# Altium integrated library Atmel Microcontroller AVR XMEGA.IntLib: 76 symbols (part 3 of 5)
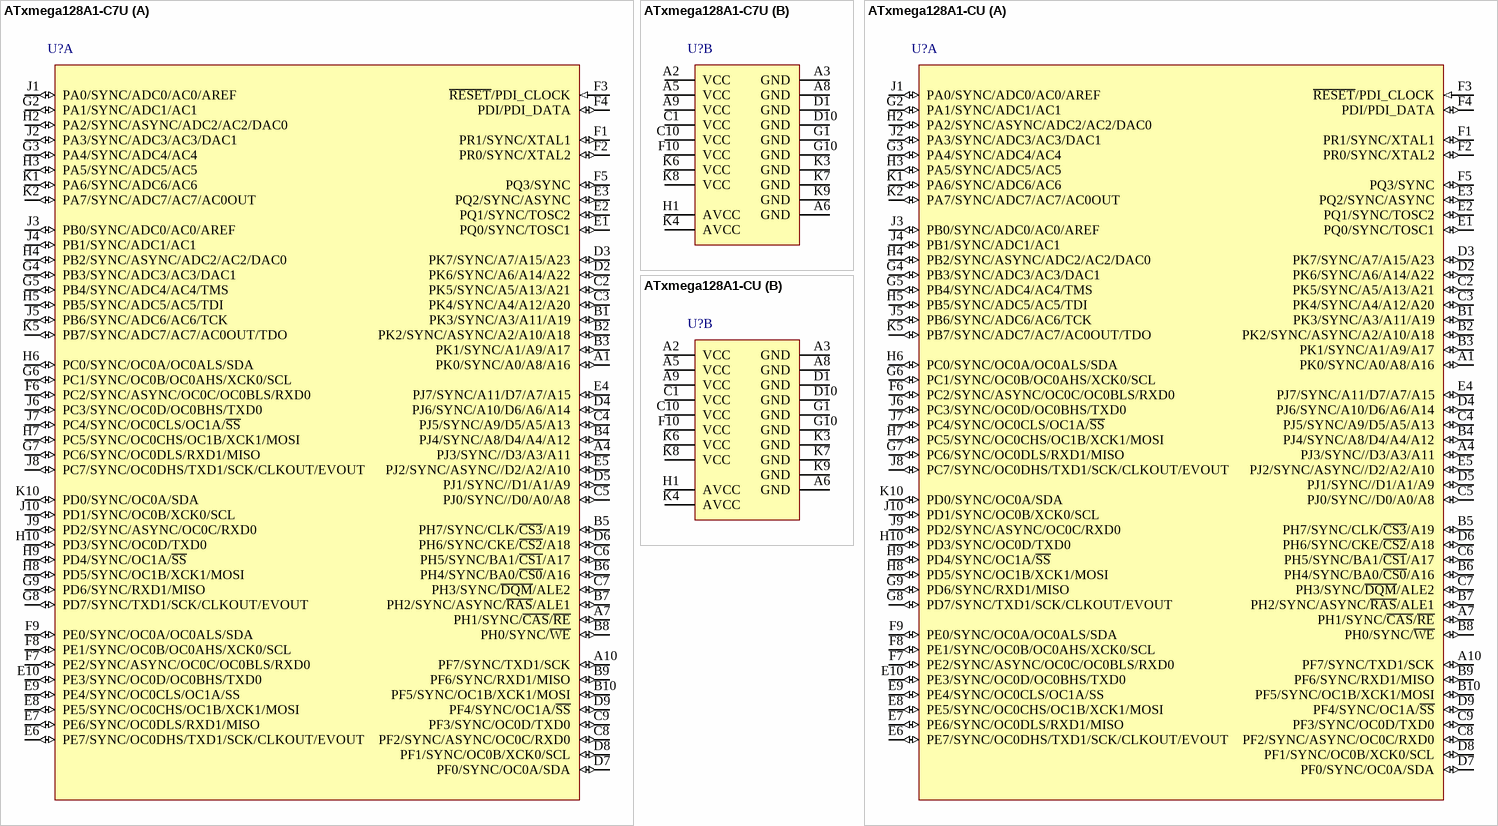
[diagram p24: symbols ATxmega128A1-C7U to ATxmega128A1-CU]

## ATxmega128A1-CU
designator U?
8/16-bit AVR XMEGA A1 Microcontroller, 1.6-3.6V, 32MHz, 128KB + 8KB Flash, 2KB EEPROM, 8KB SRAM, 100-pin CBGA, Industrial Grade (-40°C to 85°C), Pb-Free; DatasheetVersion: revM, Sep-2010; PackageVersion: revA, May-2006; PackageReference: 100C1; PackageDescription: 100-Ball Chip Array BGA Package (CBGA), 9 x 9 x1.2 mm Body, 0.80 mm Pitch; ComponentLink1Description: Manufacturer URL; ComponentLink1URL: http://www.atmel.com/; ComponentLink2Description: ATxmega64A1/128A1/192A1/256A1/384A1 Datasheet; ComponentLink2URL: http://www.atmel.com/dyn/resources/prod_documents/doc8067.pdf
footprint 100C1 (BGA, 100-Leads, Body 9x9mm, Pitch 0.8mm)
part A pins: A1 PK0/SYNC/A0/A8/A16 (io), A4 PJ3/SYNC//D3/A3/A11 (io), A7 PH1/SYNC/~{CAS}/~{RE} (io), A10 PF7/SYNC/TXD1/SCK (io), B1 PK3/SYNC/A3/A11/A19 (io), B2 PK2/SYNC/ASYNC/A2/A10/A18 (io), B3 PK1/SYNC/A1/A9/A17 (io), B4 PJ4/SYNC/A8/D4/A4/A12 (io), B5 PH7/SYNC/CLK/~{CS3}/A19 (io), B6 PH4/SYNC/BA0/~{CS0}/A16 (io), B7 PH2/SYNC/ASYNC/~{RAS}/ALE1 (io), B8 PH0/SYNC/~{WE} (io), B9 PF6/SYNC/RXD1/MISO (io), B10 PF5/SYNC/OC1B/XCK1/MOSI (io), C2 PK5/SYNC/A5/A13/A21 (io), C3 PK4/SYNC/A4/A12/A20 (io), C4 PJ5/SYNC/A9/D5/A5/A13 (io), C5 PJ0/SYNC//D0/A0/A8 (io), C6 PH5/SYNC/BA1/~{CS1}/A17 (io), C7 PH3/SYNC/~{DQM}/ALE2 (io), C8 PF2/SYNC/ASYNC/OC0C/RXD0 (io), C9 PF3/SYNC/OC0D/TXD0 (io), D2 PK6/SYNC/A6/A14/A22 (io), D3 PK7/SYNC/A7/A15/A23 (io), D4 PJ6/SYNC/A10/D6/A6/A14 (io), D5 PJ1/SYNC//D1/A1/A9 (io), D6 PH6/SYNC/CKE/~{CS2}/A18 (io), D7 PF0/SYNC/OC0A/SDA (io), D8 PF1/SYNC/OC0B/XCK0/SCL (io), D9 PF4/SYNC/OC1A/~{SS} (io), E1 PQ0/SYNC/TOSC1 (io), E2 PQ1/SYNC/TOSC2 (io), E3 PQ2/SYNC/ASYNC (io), E4 PJ7/SYNC/A11/D7/A7/A15 (io), E5 PJ2/SYNC/ASYNC//D2/A2/A10 (io), E6 PE7/SYNC/OC0DHS/TXD1/SCK/CLKOUT/EVOUT (io), E7 PE6/SYNC/OC0DLS/RXD1/MISO (io), E8 PE5/SYNC/OC0CHS/OC1B/XCK1/MOSI (io), E9 PE4/SYNC/OC0CLS/OC1A/SS (io), E10 PE3/SYNC/OC0D/OC0BHS/TXD0 (io), F1 PR1/SYNC/XTAL1 (io), F2 PR0/SYNC/XTAL2 (io), F3 ~{RESET}/PDI_CLOCK (in), F4 PDI/PDI_DATA (io), F5 PQ3/SYNC (io), F6 PC2/SYNC/ASYNC/OC0C/OC0BLS/RXD0 (io), F7 PE2/SYNC/ASYNC/OC0C/OC0BLS/RXD0 (io), F8 PE1/SYNC/OC0B/OC0AHS/XCK0/SCL (io), F9 PE0/SYNC/OC0A/OC0ALS/SDA (io), G2 PA1/SYNC/ADC1/AC1 (io), G3 PA4/SYNC/ADC4/AC4 (io), G4 PB3/SYNC/ADC3/AC3/DAC1 (io), G5 PB4/SYNC/ADC4/AC4/TMS (io), G6 PC1/SYNC/OC0B/OC0AHS/XCK0/SCL (io), G7 PC6/SYNC/OC0DLS/RXD1/MISO (io), G8 PD7/SYNC/TXD1/SCK/CLKOUT/EVOUT (io), G9 PD6/SYNC/RXD1/MISO (io), H2 PA2/SYNC/ASYNC/ADC2/AC2/DAC0 (io), H3 PA5/SYNC/ADC5/AC5 (io), H4 PB2/SYNC/ASYNC/ADC2/AC2/DAC0 (io), H5 PB5/SYNC/ADC5/AC5/TDI (io), H6 PC0/SYNC/OC0A/OC0ALS/SDA (io), H7 PC5/SYNC/OC0CHS/OC1B/XCK1/MOSI (io), H8 PD5/SYNC/OC1B/XCK1/MOSI (io), H9 PD4/SYNC/OC1A/~{SS} (io), H10 PD3/SYNC/OC0D/TXD0 (io), J1 PA0/SYNC/ADC0/AC0/AREF (io), J2 PA3/SYNC/ADC3/AC3/DAC1 (io), J3 PB0/SYNC/ADC0/AC0/AREF (io), J4 PB1/SYNC/ADC1/AC1 (io), J5 PB6/SYNC/ADC6/AC6/TCK (io), J6 PC3/SYNC/OC0D/OC0BHS/TXD0 (io), J7 PC4/SYNC/OC0CLS/OC1A/~{SS} (io), J8 PC7/SYNC/OC0DHS/TXD1/SCK/CLKOUT/EVOUT (io), J9 PD2/SYNC/ASYNC/OC0C/RXD0 (io), J10 PD1/SYNC/OC0B/XCK0/SCL (io), K1 PA6/SYNC/ADC6/AC6 (io), K2 PA7/SYNC/ADC7/AC7/AC0OUT (io), K5 PB7/SYNC/ADC7/AC7/AC0OUT/TDO (io), K10 PD0/SYNC/OC0A/SDA (io)
part B pins: A2 VCC (power), A3 GND (power), A5 VCC (power), A6 GND (power), A8 GND (power), A9 VCC (power), C1 VCC (power), C10 VCC (power), D1 GND (power), D10 GND (power), F10 VCC (power), G1 GND (power), G10 GND (power), H1 AVCC (power), K3 GND (power), K4 AVCC (power), K6 VCC (power), K7 GND (power), K8 VCC (power), K9 GND (power)

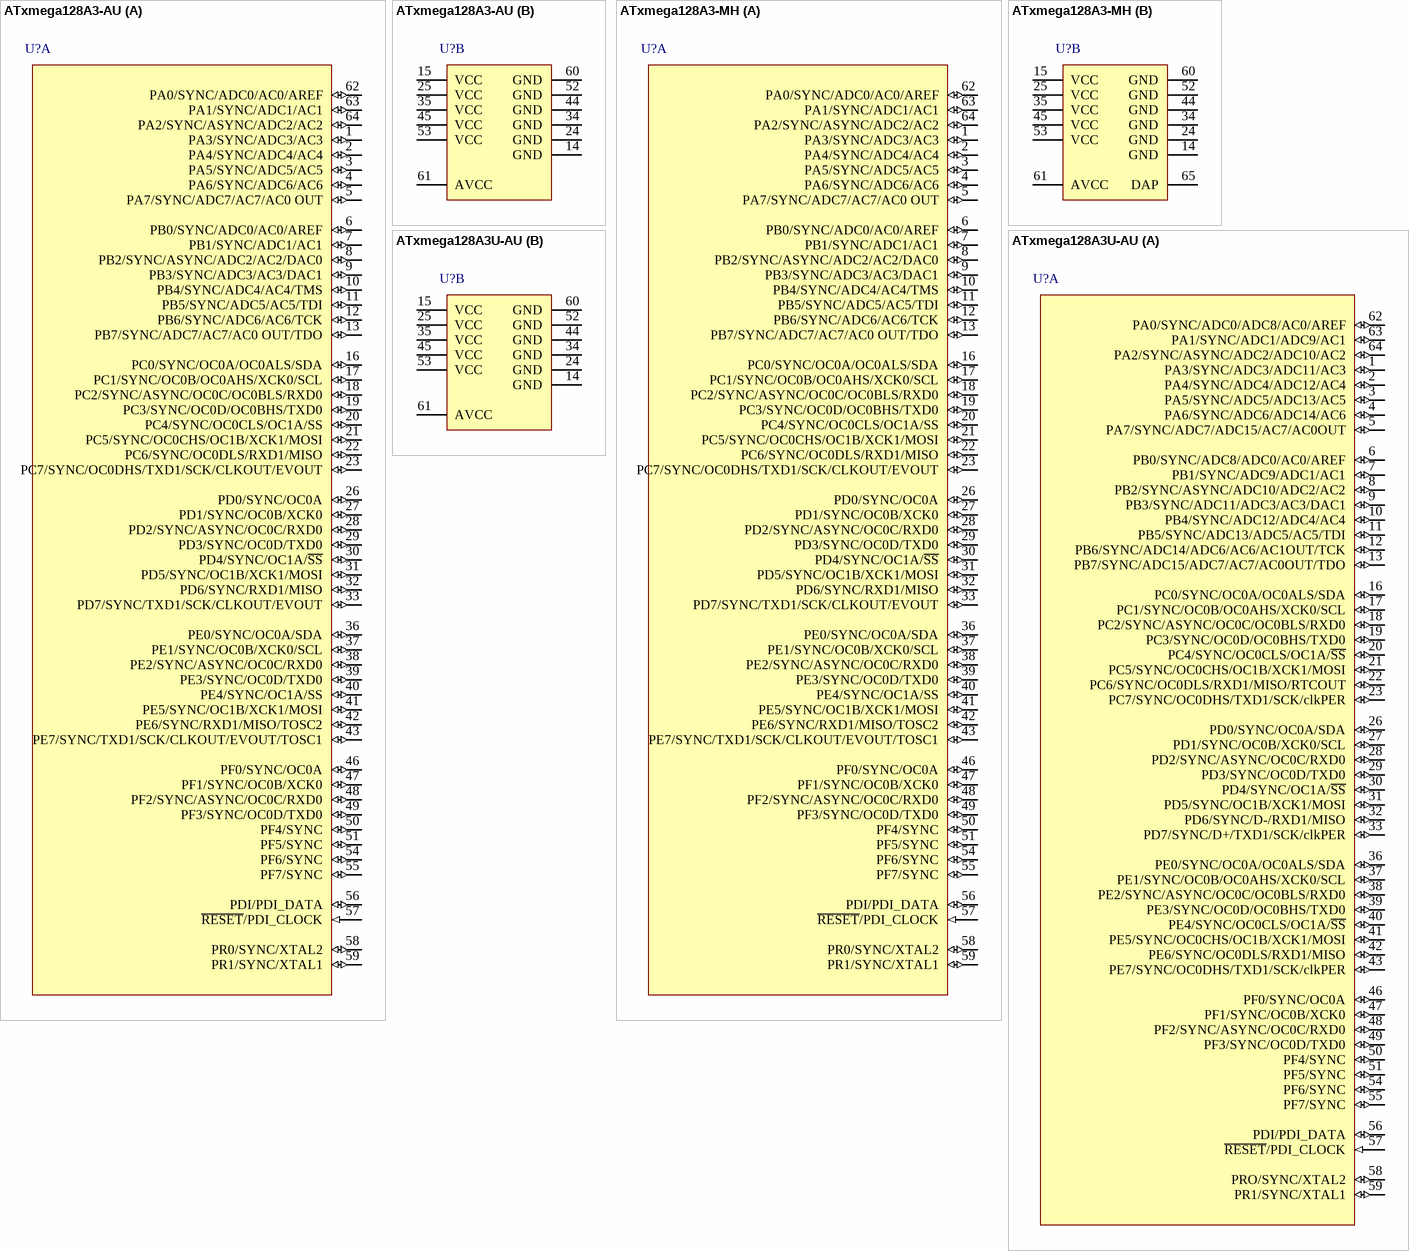
[diagram p10: symbols ATxmega128A3-AU to ATxmega128A3U-AU]

## ATxmega128A3-AU
designator U?
8/16-bit AVR XMEGA A3 Microcontroller, 1.6-3.6V, 32MHz, 128KB + 8KB Flash, 2KB EEPROM, 8KB SRAM, 64-pin TQFP, Industrial Grade (-40°C to 85°C), Pb-Free; DatasheetVersion: revT, Dec-2010; PackageVersion: revC, Oct-2010; PackageReference: 64A; PackageDescription: 64-Pin Plastic Thin Profile Quad Flat Pack, 14 x 14 x 1.0 mm Body, 0.8 mm Pitch (TQFP); Code_JEDEC: MS-026-AEB; ComponentLink1Description: Manufacturer URL; ComponentLink1URL: http://www.atmel.com/; ComponentLink2Description: ATxmega64A3/128A3/192A3/256A3 Datasheet; ComponentLink2URL: http://www.atmel.com/dyn/resources/prod_documents/doc8068.pdf
footprint 64A_N (Thin QFP, 64-Leads, Body 14x14mm, Pitch 0.8mm, IPC Medium Density)
footprint 64A_L (Thin QFP, 64-Leads, Body 14x14mm, Pitch 0.8mm, IPC High Density)
footprint 64A_M (Thin QFP, 64-Leads, Body 14x14mm, Pitch 0.8mm, IPC Low Density)
part A pins: 1 PA3/SYNC/ADC3/AC3 (io), 2 PA4/SYNC/ADC4/AC4 (io), 3 PA5/SYNC/ADC5/AC5 (io), 4 PA6/SYNC/ADC6/AC6 (io), 5 PA7/SYNC/ADC7/AC7/AC0 OUT (io), 6 PB0/SYNC/ADC0/AC0/AREF (io), 7 PB1/SYNC/ADC1/AC1 (io), 8 PB2/SYNC/ASYNC/ADC2/AC2/DAC0 (io), 9 PB3/SYNC/ADC3/AC3/DAC1 (io), 10 PB4/SYNC/ADC4/AC4/TMS (io), 11 PB5/SYNC/ADC5/AC5/TDI (io), 12 PB6/SYNC/ADC6/AC6/TCK (io), 13 PB7/SYNC/ADC7/AC7/AC0 OUT/TDO (io), 16 PC0/SYNC/OC0A/OC0ALS/SDA (io), 17 PC1/SYNC/OC0B/OC0AHS/XCK0/SCL (io), 18 PC2/SYNC/ASYNC/OC0C/OC0BLS/RXD0 (io), 19 PC3/SYNC/OC0D/OC0BHS/TXD0 (io), 20 PC4/SYNC/OC0CLS/OC1A/SS (io), 21 PC5/SYNC/OC0CHS/OC1B/XCK1/MOSI (io), 22 PC6/SYNC/OC0DLS/RXD1/MISO (io), 23 PC7/SYNC/OC0DHS/TXD1/SCK/CLKOUT/EVOUT (io), 26 PD0/SYNC/OC0A (io), 27 PD1/SYNC/OC0B/XCK0 (io), 28 PD2/SYNC/ASYNC/OC0C/RXD0 (io), 29 PD3/SYNC/OC0D/TXD0 (io), 30 PD4/SYNC/OC1A/~{SS} (io), 31 PD5/SYNC/OC1B/XCK1/MOSI (io), 32 PD6/SYNC/RXD1/MISO (io), 33 PD7/SYNC/TXD1/SCK/CLKOUT/EVOUT (io), 36 PE0/SYNC/OC0A/SDA (io), 37 PE1/SYNC/OC0B/XCK0/SCL (io), 38 PE2/SYNC/ASYNC/OC0C/RXD0 (io), 39 PE3/SYNC/OC0D/TXD0 (io), 40 PE4/SYNC/OC1A/SS (io), 41 PE5/SYNC/OC1B/XCK1/MOSI (io), 42 PE6/SYNC/RXD1/MISO/TOSC2 (io), 43 PE7/SYNC/TXD1/SCK/CLKOUT/EVOUT/TOSC1 (io), 46 PF0/SYNC/OC0A (io), 47 PF1/SYNC/OC0B/XCK0 (io), 48 PF2/SYNC/ASYNC/OC0C/RXD0 (io), 49 PF3/SYNC/OC0D/TXD0 (io), 50 PF4/SYNC (io), 51 PF5/SYNC (io), 54 PF6/SYNC (io), 55 PF7/SYNC (io), 56 PDI/PDI_DATA (io), 57 ~{RESET}/PDI_CLOCK (in), 58 PR0/SYNC/XTAL2 (io), 59 PR1/SYNC/XTAL1 (io), 62 PA0/SYNC/ADC0/AC0/AREF (io), 63 PA1/SYNC/ADC1/AC1 (io), 64 PA2/SYNC/ASYNC/ADC2/AC2 (io)
part B pins: 14 GND (power), 15 VCC (power), 24 GND (power), 25 VCC (power), 34 GND (power), 35 VCC (power), 44 GND (power), 45 VCC (power), 52 GND (power), 53 VCC (power), 60 GND (power), 61 AVCC (power)

## ATxmega128A3-MH
designator U?
8/16-bit AVR XMEGA A3 Microcontroller, 1.6-3.6V, 32MHz, 128KB + 8KB Flash, 2KB EEPROM, 8KB SRAM, 64-pin MLF, Industrial Grade (-40°C to 85°C), Pb-Free; DatasheetVersion: revT, Dec-2010; PackageVersion: revE, Oct-2010; PackageReference: 64M2; PackageDescription: 64-Pin Micro Lead Frame Package (MLF), 9 x 9 x 1.0 mm Body, 0.5 mm Pitch, 7.65 mm Exposed Pad; Code_JEDEC: MO-220VMMD; ComponentLink1Description: Manufacturer URL; ComponentLink1URL: http://www.atmel.com/; ComponentLink2Description: ATxmega64A3/128A3/192A3/256A3 Datasheet; ComponentLink2URL: http://www.atmel.com/dyn/resources/prod_documents/doc8068.pdf
footprint 64M2_N (QFN, 64-Leads, Body 9x9mm, Pitch 0.5mm, Thermal Pad 7.8x7.8mm, IPC Medium Density)
footprint 64M2_L (QFN, 64-Leads, Body 9x9mm, Pitch 0.5mm, Thermal Pad 7.8x7.8mm, IPC High Density)
footprint 64M2_M (QFN, 64-Leads, Body 9x9mm, Pitch 0.5mm, Thermal Pad 7.8x7.8mm, IPC Low Density)
part A pins: 1 PA3/SYNC/ADC3/AC3 (io), 2 PA4/SYNC/ADC4/AC4 (io), 3 PA5/SYNC/ADC5/AC5 (io), 4 PA6/SYNC/ADC6/AC6 (io), 5 PA7/SYNC/ADC7/AC7/AC0 OUT (io), 6 PB0/SYNC/ADC0/AC0/AREF (io), 7 PB1/SYNC/ADC1/AC1 (io), 8 PB2/SYNC/ASYNC/ADC2/AC2/DAC0 (io), 9 PB3/SYNC/ADC3/AC3/DAC1 (io), 10 PB4/SYNC/ADC4/AC4/TMS (io), 11 PB5/SYNC/ADC5/AC5/TDI (io), 12 PB6/SYNC/ADC6/AC6/TCK (io), 13 PB7/SYNC/ADC7/AC7/AC0 OUT/TDO (io), 16 PC0/SYNC/OC0A/OC0ALS/SDA (io), 17 PC1/SYNC/OC0B/OC0AHS/XCK0/SCL (io), 18 PC2/SYNC/ASYNC/OC0C/OC0BLS/RXD0 (io), 19 PC3/SYNC/OC0D/OC0BHS/TXD0 (io), 20 PC4/SYNC/OC0CLS/OC1A/SS (io), 21 PC5/SYNC/OC0CHS/OC1B/XCK1/MOSI (io), 22 PC6/SYNC/OC0DLS/RXD1/MISO (io), 23 PC7/SYNC/OC0DHS/TXD1/SCK/CLKOUT/EVOUT (io), 26 PD0/SYNC/OC0A (io), 27 PD1/SYNC/OC0B/XCK0 (io), 28 PD2/SYNC/ASYNC/OC0C/RXD0 (io), 29 PD3/SYNC/OC0D/TXD0 (io), 30 PD4/SYNC/OC1A/~{SS} (io), 31 PD5/SYNC/OC1B/XCK1/MOSI (io), 32 PD6/SYNC/RXD1/MISO (io), 33 PD7/SYNC/TXD1/SCK/CLKOUT/EVOUT (io), 36 PE0/SYNC/OC0A/SDA (io), 37 PE1/SYNC/OC0B/XCK0/SCL (io), 38 PE2/SYNC/ASYNC/OC0C/RXD0 (io), 39 PE3/SYNC/OC0D/TXD0 (io), 40 PE4/SYNC/OC1A/SS (io), 41 PE5/SYNC/OC1B/XCK1/MOSI (io), 42 PE6/SYNC/RXD1/MISO/TOSC2 (io), 43 PE7/SYNC/TXD1/SCK/CLKOUT/EVOUT/TOSC1 (io), 46 PF0/SYNC/OC0A (io), 47 PF1/SYNC/OC0B/XCK0 (io), 48 PF2/SYNC/ASYNC/OC0C/RXD0 (io), 49 PF3/SYNC/OC0D/TXD0 (io), 50 PF4/SYNC (io), 51 PF5/SYNC (io), 54 PF6/SYNC (io), 55 PF7/SYNC (io), 56 PDI/PDI_DATA (io), 57 ~{RESET}/PDI_CLOCK (in), 58 PR0/SYNC/XTAL2 (io), 59 PR1/SYNC/XTAL1 (io), 62 PA0/SYNC/ADC0/AC0/AREF (io), 63 PA1/SYNC/ADC1/AC1 (io), 64 PA2/SYNC/ASYNC/ADC2/AC2 (io)
part B pins: 14 GND (power), 15 VCC (power), 24 GND (power), 25 VCC (power), 34 GND (power), 35 VCC (power), 44 GND (power), 45 VCC (power), 52 GND (power), 53 VCC (power), 60 GND (power), 61 AVCC (power), 65 DAP (power)

## ATxmega128A3U-AU
designator U?
8/16-bit AVR XMEGA A4 Microcontroller, 1.6-3.6V, 32MHz, 128K + 8KB Flash, 2K EEPROM, 8K SRAM, 64-pin TQFP, Industrial Grade (-40°C to 85°C); DatasheetVersion: revB, Dec-2011; PackageVersion: revC, Oct-2010; PackageReference: 64A; PackageDescription: 64-Pin Plastic Thin Profile Quad Flat Pack, 14 x 14 x 1.0 mm Body, 0.8 mm Pitch (TQFP); Code_JEDEC: MS-026-AEB; ComponentLink1Description: Manufacturer URL; ComponentLink1URL: http://www.atmel.com/; ComponentLink2Description: ATxmega64A3U/128A3U/192A3U/256A3U Datasheet; ComponentLink2URL: http://www.atmel.com/dyn/resources/prod_documents/doc8386.pdf
footprint 64A_N (Thin QFP, 64-Leads, Body 14x14mm, Pitch 0.8mm, IPC Medium Density)
footprint 64A_L (Thin QFP, 64-Leads, Body 14x14mm, Pitch 0.8mm, IPC High Density)
footprint 64A_M (Thin QFP, 64-Leads, Body 14x14mm, Pitch 0.8mm, IPC Low Density)
part A pins: 1 PA3/SYNC/ADC3/ADC11/AC3 (io), 2 PA4/SYNC/ADC4/ADC12/AC4 (io), 3 PA5/SYNC/ADC5/ADC13/AC5 (io), 4 PA6/SYNC/ADC6/ADC14/AC6 (io), 5 PA7/SYNC/ADC7/ADC15/AC7/AC0OUT (io), 6 PB0/SYNC/ADC8/ADC0/AC0/AREF (io), 7 PB1/SYNC/ADC9/ADC1/AC1 (io), 8 PB2/SYNC/ASYNC/ADC10/ADC2/AC2 (io), 9 PB3/SYNC/ADC11/ADC3/AC3/DAC1 (io), 10 PB4/SYNC/ADC12/ADC4/AC4 (io), 11 PB5/SYNC/ADC13/ADC5/AC5/TDI (io), 12 PB6/SYNC/ADC14/ADC6/AC6/AC1OUT/TCK (io), 13 PB7/SYNC/ADC15/ADC7/AC7/AC0OUT/TDO (io), 16 PC0/SYNC/OC0A/OC0ALS/SDA (io), 17 PC1/SYNC/OC0B/OC0AHS/XCK0/SCL (io), 18 PC2/SYNC/ASYNC/OC0C/OC0BLS/RXD0 (io), 19 PC3/SYNC/OC0D/OC0BHS/TXD0 (io), 20 PC4/SYNC/OC0CLS/OC1A/~{SS} (io), 21 PC5/SYNC/OC0CHS/OC1B/XCK1/MOSI (io), 22 PC6/SYNC/OC0DLS/RXD1/MISO/RTCOUT (io), 23 PC7/SYNC/OC0DHS/TXD1/SCK/clkPER (io), 26 PD0/SYNC/OC0A/SDA (io), 27 PD1/SYNC/OC0B/XCK0/SCL (io), 28 PD2/SYNC/ASYNC/OC0C/RXD0 (io), 29 PD3/SYNC/OC0D/TXD0 (io), 30 PD4/SYNC/OC1A/~{SS} (io), 31 PD5/SYNC/OC1B/XCK1/MOSI (io), 32 PD6/SYNC/D-/RXD1/MISO (io), 33 PD7/SYNC/D+/TXD1/SCK/clkPER (io), 36 PE0/SYNC/OC0A/OC0ALS/SDA (io), 37 PE1/SYNC/OC0B/OC0AHS/XCK0/SCL (io), 38 PE2/SYNC/ASYNC/OC0C/OC0BLS/RXD0 (io), 39 PE3/SYNC/OC0D/OC0BHS/TXD0 (io), 40 PE4/SYNC/OC0CLS/OC1A/~{SS} (io), 41 PE5/SYNC/OC0CHS/OC1B/XCK1/MOSI (io), 42 PE6/SYNC/OC0DLS/RXD1/MISO (io), 43 PE7/SYNC/OC0DHS/TXD1/SCK/clkPER (io), 46 PF0/SYNC/OC0A (io), 47 PF1/SYNC/OC0B/XCK0 (io), 48 PF2/SYNC/ASYNC/OC0C/RXD0 (io), 49 PF3/SYNC/OC0D/TXD0 (io), 50 PF4/SYNC (io), 51 PF5/SYNC (io), 54 PF6/SYNC (io), 55 PF7/SYNC (io), 56 PDI/PDI_DATA (io), 57 ~{RESET}/PDI_CLOCK (in), 58 PRO/SYNC/XTAL2 (io), 59 PR1/SYNC/XTAL1 (io), 62 PA0/SYNC/ADC0/ADC8/AC0/AREF (io), 63 PA1/SYNC/ADC1/ADC9/AC1 (io), 64 PA2/SYNC/ASYNC/ADC2/ADC10/AC2 (io)
part B pins: 14 GND (power), 15 VCC (power), 24 GND (power), 25 VCC (power), 34 GND (power), 35 VCC (power), 44 GND (power), 45 VCC (power), 52 GND (power), 53 VCC (power), 60 GND (power), 61 AVCC (power)

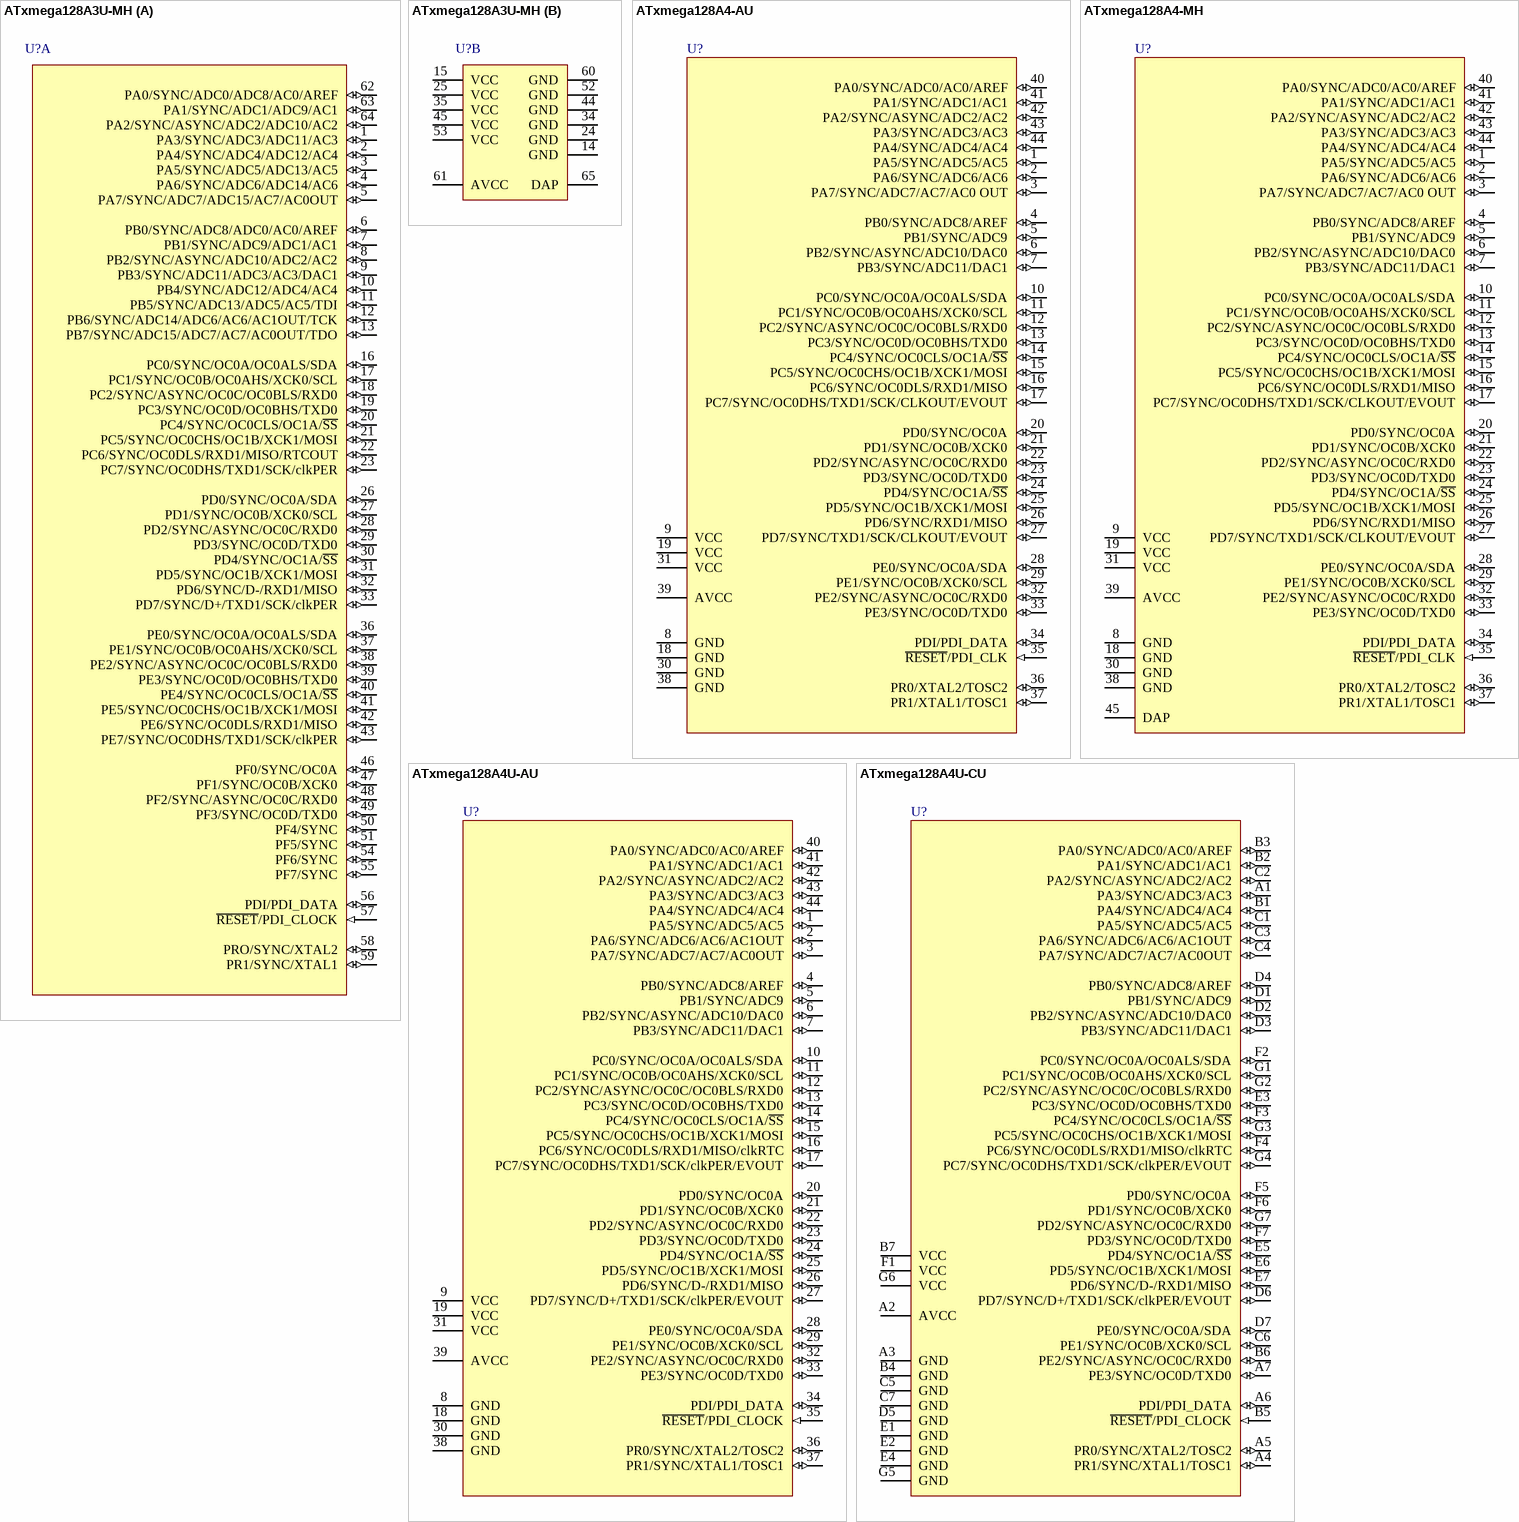
[diagram p11: symbols ATxmega128A3U-MH to ATxmega128A4U-CU]

## ATxmega128A3U-MH
designator U?
8/16-bit AVR XMEGA A4 Microcontroller, 1.6-3.6V, 32MHz, 128K + 8KB Flash, 2K EEPROM, 8K SRAM, 64-pin MLF, Industrial Grade (-40°C to 85°C); DatasheetVersion: revB, Dec-2011; PackageVersion: revE, Oct-2010; PackageReference: 64M2; PackageDescription: 64-Pin Micro Lead Frame Package (MLF), 9 x 9 x 1.0 mm Body, 0.5 mm Pitch, 7.65 mm Exposed Pad; Code_JEDEC: MO-220VMMD; ComponentLink1Description: Manufacturer URL; ComponentLink1URL: http://www.atmel.com/; ComponentLink2Description: ATxmega64A3U/128A3U/192A3U/256A3U Datasheet; ComponentLink2URL: http://www.atmel.com/dyn/resources/prod_documents/doc8386.pdf
footprint 64M2_N (QFN, 64-Leads, Body 9x9mm, Pitch 0.5mm, Thermal Pad 7.8x7.8mm, IPC Medium Density)
footprint 64M2_L (QFN, 64-Leads, Body 9x9mm, Pitch 0.5mm, Thermal Pad 7.8x7.8mm, IPC High Density)
footprint 64M2_M (QFN, 64-Leads, Body 9x9mm, Pitch 0.5mm, Thermal Pad 7.8x7.8mm, IPC Low Density)
part A pins: 1 PA3/SYNC/ADC3/ADC11/AC3 (io), 2 PA4/SYNC/ADC4/ADC12/AC4 (io), 3 PA5/SYNC/ADC5/ADC13/AC5 (io), 4 PA6/SYNC/ADC6/ADC14/AC6 (io), 5 PA7/SYNC/ADC7/ADC15/AC7/AC0OUT (io), 6 PB0/SYNC/ADC8/ADC0/AC0/AREF (io), 7 PB1/SYNC/ADC9/ADC1/AC1 (io), 8 PB2/SYNC/ASYNC/ADC10/ADC2/AC2 (io), 9 PB3/SYNC/ADC11/ADC3/AC3/DAC1 (io), 10 PB4/SYNC/ADC12/ADC4/AC4 (io), 11 PB5/SYNC/ADC13/ADC5/AC5/TDI (io), 12 PB6/SYNC/ADC14/ADC6/AC6/AC1OUT/TCK (io), 13 PB7/SYNC/ADC15/ADC7/AC7/AC0OUT/TDO (io), 16 PC0/SYNC/OC0A/OC0ALS/SDA (io), 17 PC1/SYNC/OC0B/OC0AHS/XCK0/SCL (io), 18 PC2/SYNC/ASYNC/OC0C/OC0BLS/RXD0 (io), 19 PC3/SYNC/OC0D/OC0BHS/TXD0 (io), 20 PC4/SYNC/OC0CLS/OC1A/~{SS} (io), 21 PC5/SYNC/OC0CHS/OC1B/XCK1/MOSI (io), 22 PC6/SYNC/OC0DLS/RXD1/MISO/RTCOUT (io), 23 PC7/SYNC/OC0DHS/TXD1/SCK/clkPER (io), 26 PD0/SYNC/OC0A/SDA (io), 27 PD1/SYNC/OC0B/XCK0/SCL (io), 28 PD2/SYNC/ASYNC/OC0C/RXD0 (io), 29 PD3/SYNC/OC0D/TXD0 (io), 30 PD4/SYNC/OC1A/~{SS} (io), 31 PD5/SYNC/OC1B/XCK1/MOSI (io), 32 PD6/SYNC/D-/RXD1/MISO (io), 33 PD7/SYNC/D+/TXD1/SCK/clkPER (io), 36 PE0/SYNC/OC0A/OC0ALS/SDA (io), 37 PE1/SYNC/OC0B/OC0AHS/XCK0/SCL (io), 38 PE2/SYNC/ASYNC/OC0C/OC0BLS/RXD0 (io), 39 PE3/SYNC/OC0D/OC0BHS/TXD0 (io), 40 PE4/SYNC/OC0CLS/OC1A/~{SS} (io), 41 PE5/SYNC/OC0CHS/OC1B/XCK1/MOSI (io), 42 PE6/SYNC/OC0DLS/RXD1/MISO (io), 43 PE7/SYNC/OC0DHS/TXD1/SCK/clkPER (io), 46 PF0/SYNC/OC0A (io), 47 PF1/SYNC/OC0B/XCK0 (io), 48 PF2/SYNC/ASYNC/OC0C/RXD0 (io), 49 PF3/SYNC/OC0D/TXD0 (io), 50 PF4/SYNC (io), 51 PF5/SYNC (io), 54 PF6/SYNC (io), 55 PF7/SYNC (io), 56 PDI/PDI_DATA (io), 57 ~{RESET}/PDI_CLOCK (in), 58 PRO/SYNC/XTAL2 (io), 59 PR1/SYNC/XTAL1 (io), 62 PA0/SYNC/ADC0/ADC8/AC0/AREF (io), 63 PA1/SYNC/ADC1/ADC9/AC1 (io), 64 PA2/SYNC/ASYNC/ADC2/ADC10/AC2 (io)
part B pins: 14 GND (power), 15 VCC (power), 24 GND (power), 25 VCC (power), 34 GND (power), 35 VCC (power), 44 GND (power), 45 VCC (power), 52 GND (power), 53 VCC (power), 60 GND (power), 61 AVCC (power), 65 DAP (power)

## ATxmega128A4-AU
designator U?
8/16-bit AVR XMEGA A4 Microcontroller, 1.6-3.6V, 32MHz, 128KB + 8KB Flash, 2KB EEPROM, 8KB SRAM, 44-pin TQFP, Industrial Grade (-40°C to 85°C), Pb-Free; DatasheetVersion: revQ, Dec-2010; PackageVersion: revC, Oct-2010; PackageReference: 44A; PackageDescription: 44-Pin Plastic Thin Profile Quad Flat Pack, 10 x 10 x 1.0 mm Body, 0.8 mm Pitch (TQFP); Code_JEDEC: MS-026-ACB; ComponentLink1Description: Manufacturer URL; ComponentLink1URL: http://www.atmel.com/; ComponentLink2Description: ATxmega16A4/32A4/64A4/128A4 Datasheet; ComponentLink2URL: http://www.atmel.com/dyn/resources/prod_documents/doc8069.pdf
footprint 44A_N (Thin QFP, 44-Leads, Body 10x10mm, Pitch 0.8mm, IPC Medium Density)
footprint 44A_L (Thin QFP, 44-Leads, Body 10x10mm, Pitch 0.8mm, IPC High Density)
footprint 44A_M (Thin QFP, 44-Leads, Body 10x10mm, Pitch 0.8mm, IPC Low Density)
pins: 1 PA5/SYNC/ADC5/AC5 (io), 2 PA6/SYNC/ADC6/AC6 (io), 3 PA7/SYNC/ADC7/AC7/AC0 OUT (io), 4 PB0/SYNC/ADC8/AREF (io), 5 PB1/SYNC/ADC9 (io), 6 PB2/SYNC/ASYNC/ADC10/DAC0 (io), 7 PB3/SYNC/ADC11/DAC1 (io), 8 GND (power), 9 VCC (power), 10 PC0/SYNC/OC0A/OC0ALS/SDA (io), 11 PC1/SYNC/OC0B/OC0AHS/XCK0/SCL (io), 12 PC2/SYNC/ASYNC/OC0C/OC0BLS/RXD0 (io), 13 PC3/SYNC/OC0D/OC0BHS/TXD0 (io), 14 PC4/SYNC/OC0CLS/OC1A/~{SS} (io), 15 PC5/SYNC/OC0CHS/OC1B/XCK1/MOSI (io), 16 PC6/SYNC/OC0DLS/RXD1/MISO (io), 17 PC7/SYNC/OC0DHS/TXD1/SCK/CLKOUT/EVOUT (io), 18 GND (power), 19 VCC (power), 20 PD0/SYNC/OC0A (io), 21 PD1/SYNC/OC0B/XCK0 (io), 22 PD2/SYNC/ASYNC/OC0C/RXD0 (io), 23 PD3/SYNC/OC0D/TXD0 (io), 24 PD4/SYNC/OC1A/~{SS} (io), 25 PD5/SYNC/OC1B/XCK1/MOSI (io), 26 PD6/SYNC/RXD1/MISO (io), 27 PD7/SYNC/TXD1/SCK/CLKOUT/EVOUT (io), 28 PE0/SYNC/OC0A/SDA (io), 29 PE1/SYNC/OC0B/XCK0/SCL (io), 30 GND (power), 31 VCC (power), 32 PE2/SYNC/ASYNC/OC0C/RXD0 (io), 33 PE3/SYNC/OC0D/TXD0 (io), 34 PDI/PDI_DATA (io), 35 ~{RESET}/PDI_CLK (in), 36 PR0/XTAL2/TOSC2 (io), 37 PR1/XTAL1/TOSC1 (io), 38 GND (power), 39 AVCC (power), 40 PA0/SYNC/ADC0/AC0/AREF (io), 41 PA1/SYNC/ADC1/AC1 (io), 42 PA2/SYNC/ASYNC/ADC2/AC2 (io), 43 PA3/SYNC/ADC3/AC3 (io), 44 PA4/SYNC/ADC4/AC4 (io)

## ATxmega128A4-MH
designator U?
8/16-bit AVR XMEGA A4 Microcontroller, 1.6-3.6V, 32MHz, 128KB + 8KB Flash, 2KB EEPROM, 8KB SRAM, 44-pin VQFN, Industrial Grade (-40°C to 85°C), Pb-Free; DatasheetVersion: revQ, Dec-2010; PackageVersion: revH, Sep-2008; PackageReference: 44M1; PackageDescription: 44-Pin Plastic Very Thin Quad Flat No-Lead Package, 7 x 7 x 1.0 mm Body, 0.5 mm Pitch (VQFN), 5.2 mm Exposed Pad; Code_JEDEC: MO-220-VKKD-1; ComponentLink1Description: Manufacturer URL; ComponentLink1URL: http://www.atmel.com/; ComponentLink2Description: ATxmega16A4/32A4/64A4/128A4 Datasheet; ComponentLink2URL: http://www.atmel.com/dyn/resources/prod_documents/doc8069.pdf
footprint 44M1_N (QFN, 44-Leads, Body 7x7mm, Pitch 0.5mm, Thermal Pad 5.3x5.3mm, IPC Medium Density)
footprint 44M1_L (QFN, 44-Leads, Body 7x7mm, Pitch 0.5mm, Thermal Pad 5.3x5.3mm, IPC High Density)
footprint 44M1_M (QFN, 44-Leads, Body 7x7mm, Pitch 0.5mm, Thermal Pad 5.3x5.3mm, IPC Low Density)
pins: 1 PA5/SYNC/ADC5/AC5 (io), 2 PA6/SYNC/ADC6/AC6 (io), 3 PA7/SYNC/ADC7/AC7/AC0 OUT (io), 4 PB0/SYNC/ADC8/AREF (io), 5 PB1/SYNC/ADC9 (io), 6 PB2/SYNC/ASYNC/ADC10/DAC0 (io), 7 PB3/SYNC/ADC11/DAC1 (io), 8 GND (power), 9 VCC (power), 10 PC0/SYNC/OC0A/OC0ALS/SDA (io), 11 PC1/SYNC/OC0B/OC0AHS/XCK0/SCL (io), 12 PC2/SYNC/ASYNC/OC0C/OC0BLS/RXD0 (io), 13 PC3/SYNC/OC0D/OC0BHS/TXD0 (io), 14 PC4/SYNC/OC0CLS/OC1A/~{SS} (io), 15 PC5/SYNC/OC0CHS/OC1B/XCK1/MOSI (io), 16 PC6/SYNC/OC0DLS/RXD1/MISO (io), 17 PC7/SYNC/OC0DHS/TXD1/SCK/CLKOUT/EVOUT (io), 18 GND (power), 19 VCC (power), 20 PD0/SYNC/OC0A (io), 21 PD1/SYNC/OC0B/XCK0 (io), 22 PD2/SYNC/ASYNC/OC0C/RXD0 (io), 23 PD3/SYNC/OC0D/TXD0 (io), 24 PD4/SYNC/OC1A/~{SS} (io), 25 PD5/SYNC/OC1B/XCK1/MOSI (io), 26 PD6/SYNC/RXD1/MISO (io), 27 PD7/SYNC/TXD1/SCK/CLKOUT/EVOUT (io), 28 PE0/SYNC/OC0A/SDA (io), 29 PE1/SYNC/OC0B/XCK0/SCL (io), 30 GND (power), 31 VCC (power), 32 PE2/SYNC/ASYNC/OC0C/RXD0 (io), 33 PE3/SYNC/OC0D/TXD0 (io), 34 PDI/PDI_DATA (io), 35 ~{RESET}/PDI_CLK (in), 36 PR0/XTAL2/TOSC2 (io), 37 PR1/XTAL1/TOSC1 (io), 38 GND (power), 39 AVCC (power), 40 PA0/SYNC/ADC0/AC0/AREF (io), 41 PA1/SYNC/ADC1/AC1 (io), 42 PA2/SYNC/ASYNC/ADC2/AC2 (io), 43 PA3/SYNC/ADC3/AC3 (io), 44 PA4/SYNC/ADC4/AC4 (io), 45 DAP (power)

## ATxmega128A4U-AU
designator U?
8/16-bit AVR XMEGA A4U Microcontroller, 1.6-3.6V, 32MHz, 128K + 8KB Flash, 2K EEPROM, 8K SRAM, 44-pin TQFP, Industrial Grade (-40°C to 85°C); DatasheetVersion: revB, Dec-2011; PackageVersion: revC, Oct-2010; PackageReference: 44A; PackageDescription: 44-Pin Plastic Thin Profile Quad Flat Pack, 10 x 10 x 1.0 mm Body, 0.8 mm Pitch (TQFP); Code_JEDEC: MS-026-ACB; ComponentLink1Description: Manufacturer URL; ComponentLink1URL: http://www.atmel.com/; ComponentLink2Description: ATxmega16A4U/32A4U/64A4U/128A4U Datasheet; ComponentLink2URL: http://www.atmel.com/dyn/resources/prod_documents/doc8387.pdf
footprint 44A_N (Thin QFP, 44-Leads, Body 10x10mm, Pitch 0.8mm, IPC Medium Density)
footprint 44A_L (Thin QFP, 44-Leads, Body 10x10mm, Pitch 0.8mm, IPC High Density)
footprint 44A_M (Thin QFP, 44-Leads, Body 10x10mm, Pitch 0.8mm, IPC Low Density)
pins: 1 PA5/SYNC/ADC5/AC5 (io), 2 PA6/SYNC/ADC6/AC6/AC1OUT (io), 3 PA7/SYNC/ADC7/AC7/AC0OUT (io), 4 PB0/SYNC/ADC8/AREF (io), 5 PB1/SYNC/ADC9 (io), 6 PB2/SYNC/ASYNC/ADC10/DAC0 (io), 7 PB3/SYNC/ADC11/DAC1 (io), 8 GND (power), 9 VCC (power), 10 PC0/SYNC/OC0A/OC0ALS/SDA (io), 11 PC1/SYNC/OC0B/OC0AHS/XCK0/SCL (io), 12 PC2/SYNC/ASYNC/OC0C/OC0BLS/RXD0 (io), 13 PC3/SYNC/OC0D/OC0BHS/TXD0 (io), 14 PC4/SYNC/OC0CLS/OC1A/~{SS} (io), 15 PC5/SYNC/OC0CHS/OC1B/XCK1/MOSI (io), 16 PC6/SYNC/OC0DLS/RXD1/MISO/clkRTC (io), 17 PC7/SYNC/OC0DHS/TXD1/SCK/clkPER/EVOUT (io), 18 GND (power), 19 VCC (power), 20 PD0/SYNC/OC0A (io), 21 PD1/SYNC/OC0B/XCK0 (io), 22 PD2/SYNC/ASYNC/OC0C/RXD0 (io), 23 PD3/SYNC/OC0D/TXD0 (io), 24 PD4/SYNC/OC1A/~{SS} (io), 25 PD5/SYNC/OC1B/XCK1/MOSI (io), 26 PD6/SYNC/D-/RXD1/MISO (io), 27 PD7/SYNC/D+/TXD1/SCK/clkPER/EVOUT (io), 28 PE0/SYNC/OC0A/SDA (io), 29 PE1/SYNC/OC0B/XCK0/SCL (io), 30 GND (power), 31 VCC (power), 32 PE2/SYNC/ASYNC/OC0C/RXD0 (io), 33 PE3/SYNC/OC0D/TXD0 (io), 34 PDI/PDI_DATA (io), 35 ~{RESET}/PDI_CLOCK (in), 36 PR0/SYNC/XTAL2/TOSC2 (io), 37 PR1/SYNC/XTAL1/TOSC1 (io), 38 GND (power), 39 AVCC (power), 40 PA0/SYNC/ADC0/AC0/AREF (io), 41 PA1/SYNC/ADC1/AC1 (io), 42 PA2/SYNC/ASYNC/ADC2/AC2 (io), 43 PA3/SYNC/ADC3/AC3 (io), 44 PA4/SYNC/ADC4/AC4 (io)

## ATxmega128A4U-CU
designator U?
8/16-bit AVR XMEGA A4U Microcontroller, 1.6-3.6V, 32MHz, 128K + 8KB Flash, 2K EEPROM, 8K SRAM, 49-pin VFBGA, Industrial Grade (-40°C to 85°C); DatasheetVersion: revB, Dec-2011; PackageVersion: revA, Mar-2008; PackageReference: 49C2; PackageDescription: 49-Ball Very Thin Fine-Pitch BGA, 5 x 5 x 1 mm Body, 0.65 mm Pitch (VFBGA); ComponentLink1Description: Manufacturer URL; ComponentLink1URL: http://www.atmel.com/; ComponentLink2Description: ATxmega16A4U/32A4U/64A4U/128A4U Datasheet; ComponentLink2URL: http://www.atmel.com/dyn/resources/prod_documents/doc8387.pdf
footprint 49C2 (BGA, 49-Leads, Body 5x5mm, Pitch 0.65mm)
pins: A1 PA3/SYNC/ADC3/AC3 (io), A2 AVCC (power), A3 GND (power), A4 PR1/SYNC/XTAL1/TOSC1 (io), A5 PR0/SYNC/XTAL2/TOSC2 (io), A6 PDI/PDI_DATA (io), A7 PE3/SYNC/OC0D/TXD0 (io), B1 PA4/SYNC/ADC4/AC4 (io), B2 PA1/SYNC/ADC1/AC1 (io), B3 PA0/SYNC/ADC0/AC0/AREF (io), B4 GND (power), B5 ~{RESET}/PDI_CLOCK (in), B6 PE2/SYNC/ASYNC/OC0C/RXD0 (io), B7 VCC (power), C1 PA5/SYNC/ADC5/AC5 (io), C2 PA2/SYNC/ASYNC/ADC2/AC2 (io), C3 PA6/SYNC/ADC6/AC6/AC1OUT (io), C4 PA7/SYNC/ADC7/AC7/AC0OUT (io), C5 GND (power), C6 PE1/SYNC/OC0B/XCK0/SCL (io), C7 GND (power), D1 PB1/SYNC/ADC9 (io), D2 PB2/SYNC/ASYNC/ADC10/DAC0 (io), D3 PB3/SYNC/ADC11/DAC1 (io), D4 PB0/SYNC/ADC8/AREF (io), D5 GND (power), D6 PD7/SYNC/D+/TXD1/SCK/clkPER/EVOUT (io), D7 PE0/SYNC/OC0A/SDA (io), E1 GND (power), E2 GND (power), E3 PC3/SYNC/OC0D/OC0BHS/TXD0 (io), E4 GND (power), E5 PD4/SYNC/OC1A/~{SS} (io), E6 PD5/SYNC/OC1B/XCK1/MOSI (io), E7 PD6/SYNC/D-/RXD1/MISO (io), F1 VCC (power), F2 PC0/SYNC/OC0A/OC0ALS/SDA (io), F3 PC4/SYNC/OC0CLS/OC1A/~{SS} (io), F4 PC6/SYNC/OC0DLS/RXD1/MISO/clkRTC (io), F5 PD0/SYNC/OC0A (io), F6 PD1/SYNC/OC0B/XCK0 (io), F7 PD3/SYNC/OC0D/TXD0 (io), G1 PC1/SYNC/OC0B/OC0AHS/XCK0/SCL (io), G2 PC2/SYNC/ASYNC/OC0C/OC0BLS/RXD0 (io), G3 PC5/SYNC/OC0CHS/OC1B/XCK1/MOSI (io), G4 PC7/SYNC/OC0DHS/TXD1/SCK/clkPER/EVOUT (io), G5 GND (power), G6 VCC (power), G7 PD2/SYNC/ASYNC/OC0C/RXD0 (io)

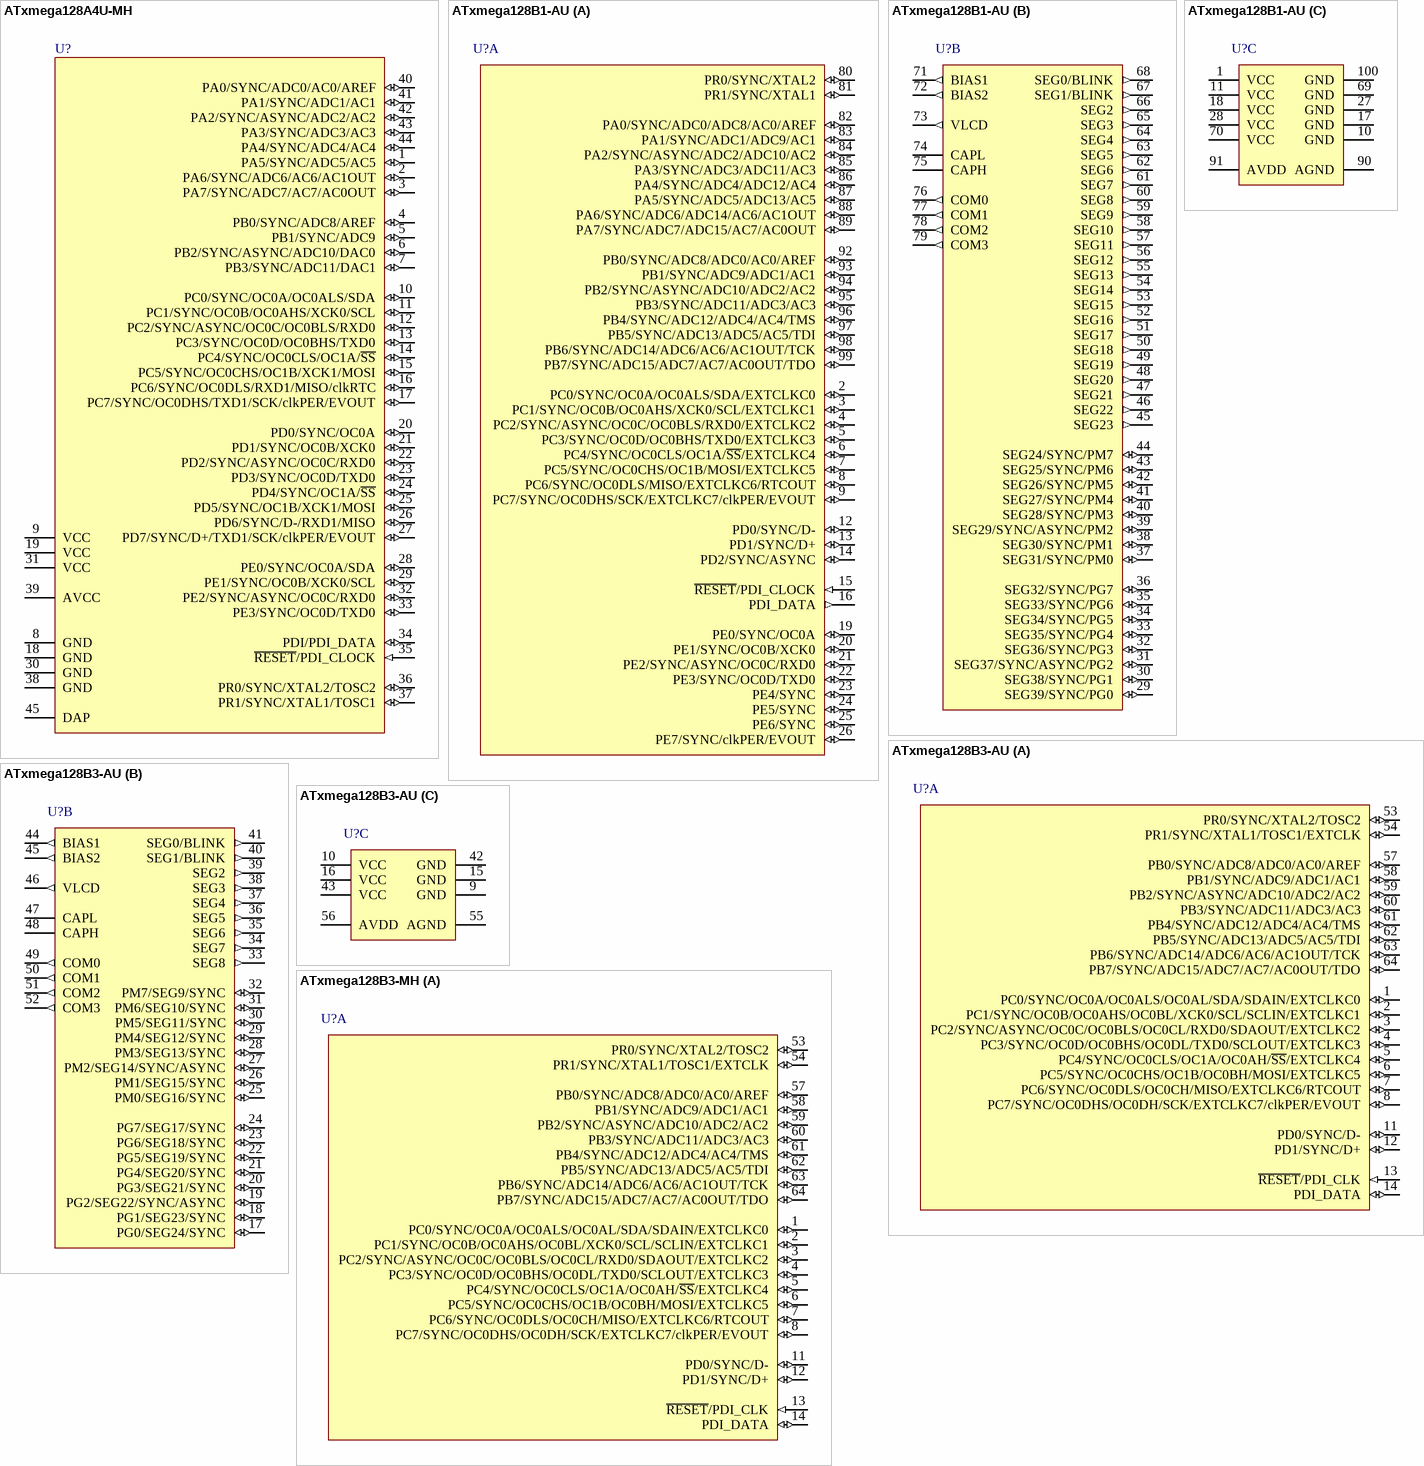
[diagram p12: symbols ATxmega128A4U-MH to ATxmega128B3-MH]

## ATxmega128A4U-MH
designator U?
8/16-bit AVR XMEGA A4U Microcontroller, 1.6-3.6V, 32MHz, 128K + 8KB Flash, 2K EEPROM, 8K SRAM, 44-pin VQFN, Industrial Grade (-40°C to 85°C); DatasheetVersion: revB, Dec-2011; PackageVersion: revH, Sep-2008; PackageReference: 44M1; PackageDescription: 44-Pin Plastic Very Thin Quad Flat No-Lead Package, 7 x 7 x 1.0 mm Body, 0.5 mm Pitch (VQFN), 5.2 mm Exposed Pad; Code_JEDEC: MO-220-VKKD-1; ComponentLink1Description: Manufacturer URL; ComponentLink1URL: http://www.atmel.com/; ComponentLink2Description: ATxmega16A4U/32A4U/64A4U/128A4U Datasheet; ComponentLink2URL: http://www.atmel.com/dyn/resources/prod_documents/doc8387.pdf
footprint 44M1_N (QFN, 44-Leads, Body 7x7mm, Pitch 0.5mm, Thermal Pad 5.3x5.3mm, IPC Medium Density)
footprint 44M1_L (QFN, 44-Leads, Body 7x7mm, Pitch 0.5mm, Thermal Pad 5.3x5.3mm, IPC High Density)
footprint 44M1_M (QFN, 44-Leads, Body 7x7mm, Pitch 0.5mm, Thermal Pad 5.3x5.3mm, IPC Low Density)
pins: 1 PA5/SYNC/ADC5/AC5 (io), 2 PA6/SYNC/ADC6/AC6/AC1OUT (io), 3 PA7/SYNC/ADC7/AC7/AC0OUT (io), 4 PB0/SYNC/ADC8/AREF (io), 5 PB1/SYNC/ADC9 (io), 6 PB2/SYNC/ASYNC/ADC10/DAC0 (io), 7 PB3/SYNC/ADC11/DAC1 (io), 8 GND (power), 9 VCC (power), 10 PC0/SYNC/OC0A/OC0ALS/SDA (io), 11 PC1/SYNC/OC0B/OC0AHS/XCK0/SCL (io), 12 PC2/SYNC/ASYNC/OC0C/OC0BLS/RXD0 (io), 13 PC3/SYNC/OC0D/OC0BHS/TXD0 (io), 14 PC4/SYNC/OC0CLS/OC1A/~{SS} (io), 15 PC5/SYNC/OC0CHS/OC1B/XCK1/MOSI (io), 16 PC6/SYNC/OC0DLS/RXD1/MISO/clkRTC (io), 17 PC7/SYNC/OC0DHS/TXD1/SCK/clkPER/EVOUT (io), 18 GND (power), 19 VCC (power), 20 PD0/SYNC/OC0A (io), 21 PD1/SYNC/OC0B/XCK0 (io), 22 PD2/SYNC/ASYNC/OC0C/RXD0 (io), 23 PD3/SYNC/OC0D/TXD0 (io), 24 PD4/SYNC/OC1A/~{SS} (io), 25 PD5/SYNC/OC1B/XCK1/MOSI (io), 26 PD6/SYNC/D-/RXD1/MISO (io), 27 PD7/SYNC/D+/TXD1/SCK/clkPER/EVOUT (io), 28 PE0/SYNC/OC0A/SDA (io), 29 PE1/SYNC/OC0B/XCK0/SCL (io), 30 GND (power), 31 VCC (power), 32 PE2/SYNC/ASYNC/OC0C/RXD0 (io), 33 PE3/SYNC/OC0D/TXD0 (io), 34 PDI/PDI_DATA (io), 35 ~{RESET}/PDI_CLOCK (in), 36 PR0/SYNC/XTAL2/TOSC2 (io), 37 PR1/SYNC/XTAL1/TOSC1 (io), 38 GND (power), 39 AVCC (power), 40 PA0/SYNC/ADC0/AC0/AREF (io), 41 PA1/SYNC/ADC1/AC1 (io), 42 PA2/SYNC/ASYNC/ADC2/AC2 (io), 43 PA3/SYNC/ADC3/AC3 (io), 44 PA4/SYNC/ADC4/AC4 (io), 45 DAP (power)

## ATxmega128B1-AU
designator U?
8/16-bit AVR XMEGA B1 Microcontroller, 1.6-3.6V, 32MHz, 128K + 8KB Flash, 2K EEPROM, 8K SRAM, 100-pin TQFP, Industrial Grade (-40°C to 85°C); DatasheetVersion: revB, Oct-2011; PackageVersion: revD, Oct-2010; PackageReference: 100A; PackageDescription: 100-Pin Thin Profile Plastic Quad Flat Pack (TQFP), 14 x 14 x 1.0 mm Body, 0.5 mm Pitch; Code_JEDEC: MS-026-AED; ComponentLink1Description: Manufacturer URL; ComponentLink1URL: http://www.atmel.com/; ComponentLink2Description: ATxmega64B1/128B1 Datasheet; ComponentLink2URL: http://www.atmel.com/dyn/resources/prod_documents/doc8330.pdf
footprint 100A_N (Thin QFP, 100-Leads, Body 14x14mm, Pitch 0.5mm, IPC Medium Density)
footprint 100A_L (Thin QFP, 100-Leads, Body 14x14mm, Pitch 0.5mm, IPC High Density)
footprint 100A_M (Thin QFP, 100-Leads, Body 14x14mm, Pitch 0.5mm, IPC Low Density)
part A pins: 2 PC0/SYNC/OC0A/OC0ALS/SDA/EXTCLKC0 (io), 3 PC1/SYNC/OC0B/OC0AHS/XCK0/SCL/EXTCLKC1 (io), 4 PC2/SYNC/ASYNC/OC0C/OC0BLS/RXD0/EXTCLKC2 (io), 5 PC3/SYNC/OC0D/OC0BHS/TXD0/EXTCLKC3 (io), 6 PC4/SYNC/OC0CLS/OC1A/~{SS}/EXTCLKC4 (io), 7 PC5/SYNC/OC0CHS/OC1B/MOSI/EXTCLKC5 (io), 8 PC6/SYNC/OC0DLS/MISO/EXTCLKC6/RTCOUT (io), 9 PC7/SYNC/OC0DHS/SCK/EXTCLKC7/clkPER/EVOUT (io), 12 PD0/SYNC/D- (io), 13 PD1/SYNC/D+ (io), 14 PD2/SYNC/ASYNC (io), 15 ~{RESET}/PDI_CLOCK (in), 16 PDI_DATA (out), 19 PE0/SYNC/OC0A (io), 20 PE1/SYNC/OC0B/XCK0 (io), 21 PE2/SYNC/ASYNC/OC0C/RXD0 (io), 22 PE3/SYNC/OC0D/TXD0 (io), 23 PE4/SYNC (io), 24 PE5/SYNC (io), 25 PE6/SYNC (io), 26 PE7/SYNC/clkPER/EVOUT (io), 80 PR0/SYNC/XTAL2 (io), 81 PR1/SYNC/XTAL1 (io), 82 PA0/SYNC/ADC0/ADC8/AC0/AREF (io), 83 PA1/SYNC/ADC1/ADC9/AC1 (io), 84 PA2/SYNC/ASYNC/ADC2/ADC10/AC2 (io), 85 PA3/SYNC/ADC3/ADC11/AC3 (io), 86 PA4/SYNC/ADC4/ADC12/AC4 (io), 87 PA5/SYNC/ADC5/ADC13/AC5 (io), 88 PA6/SYNC/ADC6/ADC14/AC6/AC1OUT (io), 89 PA7/SYNC/ADC7/ADC15/AC7/AC0OUT (io), 92 PB0/SYNC/ADC8/ADC0/AC0/AREF (io), 93 PB1/SYNC/ADC9/ADC1/AC1 (io), 94 PB2/SYNC/ASYNC/ADC10/ADC2/AC2 (io), 95 PB3/SYNC/ADC11/ADC3/AC3 (io), 96 PB4/SYNC/ADC12/ADC4/AC4/TMS (io), 97 PB5/SYNC/ADC13/ADC5/AC5/TDI (io), 98 PB6/SYNC/ADC14/ADC6/AC6/AC1OUT/TCK (io), 99 PB7/SYNC/ADC15/ADC7/AC7/AC0OUT/TDO (io)
part B pins: 29 SEG39/SYNC/PG0 (io), 30 SEG38/SYNC/PG1 (io), 31 SEG37/SYNC/ASYNC/PG2 (io), 32 SEG36/SYNC/PG3 (io), 33 SEG35/SYNC/PG4 (io), 34 SEG34/SYNC/PG5 (io), 35 SEG33/SYNC/PG6 (io), 36 SEG32/SYNC/PG7 (io), 37 SEG31/SYNC/PM0 (io), 38 SEG30/SYNC/PM1 (io), 39 SEG29/SYNC/ASYNC/PM2 (io), 40 SEG28/SYNC/PM3 (io), 41 SEG27/SYNC/PM4 (io), 42 SEG26/SYNC/PM5 (io), 43 SEG25/SYNC/PM6 (io), 44 SEG24/SYNC/PM7 (io), 45 SEG23 (out), 46 SEG22 (out), 47 SEG21 (out), 48 SEG20 (out), 49 SEG19 (out), 50 SEG18 (out), 51 SEG17 (out), 52 SEG16 (out), 53 SEG15 (out), 54 SEG14 (out), 55 SEG13 (out), 56 SEG12 (out), 57 SEG11 (out), 58 SEG10 (out), 59 SEG9 (out), 60 SEG8 (out), 61 SEG7 (out), 62 SEG6 (out), 63 SEG5 (out), 64 SEG4 (out), 65 SEG3 (out), 66 SEG2 (out), 67 SEG1/BLINK (out), 68 SEG0/BLINK (out), 71 BIAS1 (out), 72 BIAS2 (out), 73 VLCD (out), 74 CAPL, 75 CAPH, 76 COM0 (out), 77 COM1 (out), 78 COM2 (out), 79 COM3 (out)
part C pins: 1 VCC (power), 10 GND (power), 11 VCC (power), 17 GND (power), 18 VCC (power), 27 GND (power), 28 VCC (power), 69 GND (power), 70 VCC (power), 90 AGND (power), 91 AVDD (power), 100 GND (power)

## ATxmega128B3-AU
designator U?
8/16-bit AVR XMEGA B3 Microcontroller, 1.6-3.6V, 32MHz, 128K + 8KB Flash, 2K EEPROM, 8K SRAM, 64-pin TQFP, Industrial Grade (-40°C to 85°C); DatasheetVersion: revA, Oct-2011; PackageVersion: revC, Oct-2010; PackageReference: 64A; PackageDescription: 64-Pin Plastic Thin Profile Quad Flat Pack, 14 x 14 x 1.0 mm Body, 0.8 mm Pitch (TQFP); Code_JEDEC: MS-026-AEB; ComponentLink1Description: Manufacturer URL; ComponentLink1URL: http://www.atmel.com/; ComponentLink2Description: ATxmega64B3/128B3 Datasheet; ComponentLink2URL: http://www.atmel.com/dyn/resources/prod_documents/doc8074.pdf
footprint 64A_N (Thin QFP, 64-Leads, Body 14x14mm, Pitch 0.8mm, IPC Medium Density)
footprint 64A_L (Thin QFP, 64-Leads, Body 14x14mm, Pitch 0.8mm, IPC High Density)
footprint 64A_M (Thin QFP, 64-Leads, Body 14x14mm, Pitch 0.8mm, IPC Low Density)
part A pins: 1 PC0/SYNC/OC0A/OC0ALS/OC0AL/SDA/SDAIN/EXTCLKC0 (io), 2 PC1/SYNC/OC0B/OC0AHS/OC0BL/XCK0/SCL/SCLIN/EXTCLKC1 (io), 3 PC2/SYNC/ASYNC/OC0C/OC0BLS/OC0CL/RXD0/SDAOUT/EXTCLKC2 (io), 4 PC3/SYNC/OC0D/OC0BHS/OC0DL/TXD0/SCLOUT/EXTCLKC3 (io), 5 PC4/SYNC/OC0CLS/OC1A/OC0AH/~{SS}/EXTCLKC4 (io), 6 PC5/SYNC/OC0CHS/OC1B/OC0BH/MOSI/EXTCLKC5 (io), 7 PC6/SYNC/OC0DLS/OC0CH/MISO/EXTCLKC6/RTCOUT (io), 8 PC7/SYNC/OC0DHS/OC0DH/SCK/EXTCLKC7/clkPER/EVOUT (io), 11 PD0/SYNC/D- (io), 12 PD1/SYNC/D+ (io), 13 ~{RESET}/PDI_CLK (in), 14 PDI_DATA (io), 53 PR0/SYNC/XTAL2/TOSC2 (io), 54 PR1/SYNC/XTAL1/TOSC1/EXTCLK (io), 57 PB0/SYNC/ADC8/ADC0/AC0/AREF (io), 58 PB1/SYNC/ADC9/ADC1/AC1 (io), 59 PB2/SYNC/ASYNC/ADC10/ADC2/AC2 (io), 60 PB3/SYNC/ADC11/ADC3/AC3 (io), 61 PB4/SYNC/ADC12/ADC4/AC4/TMS (io), 62 PB5/SYNC/ADC13/ADC5/AC5/TDI (io), 63 PB6/SYNC/ADC14/ADC6/AC6/AC1OUT/TCK (io), 64 PB7/SYNC/ADC15/ADC7/AC7/AC0OUT/TDO (io)
part B pins: 17 PG0/SEG24/SYNC (io), 18 PG1/SEG23/SYNC (io), 19 PG2/SEG22/SYNC/ASYNC (io), 20 PG3/SEG21/SYNC (io), 21 PG4/SEG20/SYNC (io), 22 PG5/SEG19/SYNC (io), 23 PG6/SEG18/SYNC (io), 24 PG7/SEG17/SYNC (io), 25 PM0/SEG16/SYNC (io), 26 PM1/SEG15/SYNC (io), 27 PM2/SEG14/SYNC/ASYNC (io), 28 PM3/SEG13/SYNC (io), 29 PM4/SEG12/SYNC (io), 30 PM5/SEG11/SYNC (io), 31 PM6/SEG10/SYNC (io), 32 PM7/SEG9/SYNC (io), 33 SEG8 (out), 34 SEG7 (out), 35 SEG6 (out), 36 SEG5 (out), 37 SEG4 (out), 38 SEG3 (out), 39 SEG2 (out), 40 SEG1/BLINK (out), 41 SEG0/BLINK (out), 44 BIAS1 (out), 45 BIAS2 (out), 46 VLCD (out), 47 CAPL, 48 CAPH, 49 COM0 (out), 50 COM1 (out), 51 COM2 (out), 52 COM3 (out)
part C pins: 9 GND (power), 10 VCC (power), 15 GND (power), 16 VCC (power), 42 GND (power), 43 VCC (power), 55 AGND (power), 56 AVDD (power)

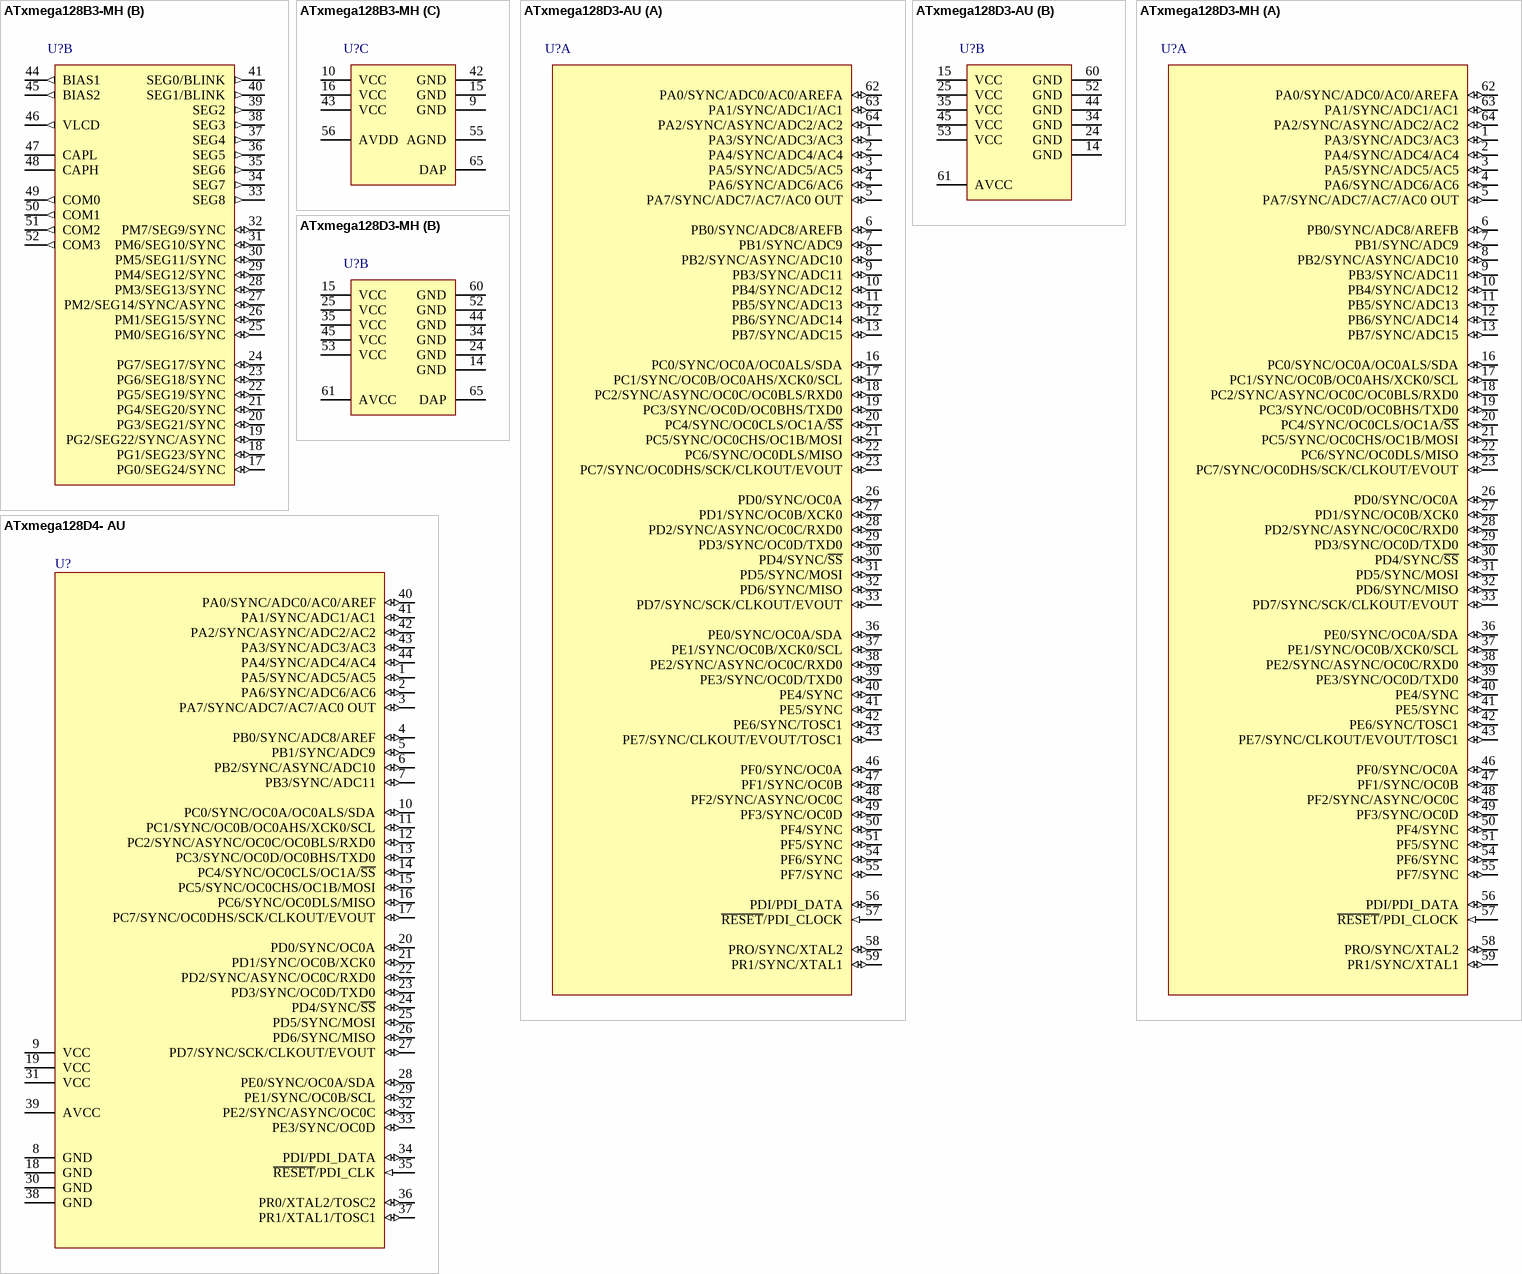
[diagram p13: symbols ATxmega128B3-MH to ATxmega128D4- AU]

## ATxmega128B3-MH
designator U?
8/16-bit AVR XMEGA B3 Microcontroller, 1.6-3.6V, 32MHz, 128K + 8KB Flash, 2K EEPROM, 8K SRAM, 64-pin MLF, Industrial Grade (-40°C to 85°C); DatasheetVersion: revA, Oct-2011; PackageVersion: revE, Oct-2010; PackageReference: 64M2; PackageDescription: 64-Pin Micro Lead Frame Package (MLF), 9 x 9 x 1.0 mm Body, 0.5 mm Pitch, 7.65 mm Exposed Pad; Code_JEDEC: MO-220VMMD; ComponentLink1Description: Manufacturer URL; ComponentLink1URL: http://www.atmel.com/; ComponentLink2Description: ATxmega64B3/128B3 Datasheet; ComponentLink2URL: http://www.atmel.com/dyn/resources/prod_documents/doc8074.pdf
footprint 64M2_N (QFN, 64-Leads, Body 9x9mm, Pitch 0.5mm, Thermal Pad 7.8x7.8mm, IPC Medium Density)
footprint 64M2_L (QFN, 64-Leads, Body 9x9mm, Pitch 0.5mm, Thermal Pad 7.8x7.8mm, IPC High Density)
footprint 64M2_M (QFN, 64-Leads, Body 9x9mm, Pitch 0.5mm, Thermal Pad 7.8x7.8mm, IPC Low Density)
part A pins: 1 PC0/SYNC/OC0A/OC0ALS/OC0AL/SDA/SDAIN/EXTCLKC0 (io), 2 PC1/SYNC/OC0B/OC0AHS/OC0BL/XCK0/SCL/SCLIN/EXTCLKC1 (io), 3 PC2/SYNC/ASYNC/OC0C/OC0BLS/OC0CL/RXD0/SDAOUT/EXTCLKC2 (io), 4 PC3/SYNC/OC0D/OC0BHS/OC0DL/TXD0/SCLOUT/EXTCLKC3 (io), 5 PC4/SYNC/OC0CLS/OC1A/OC0AH/~{SS}/EXTCLKC4 (io), 6 PC5/SYNC/OC0CHS/OC1B/OC0BH/MOSI/EXTCLKC5 (io), 7 PC6/SYNC/OC0DLS/OC0CH/MISO/EXTCLKC6/RTCOUT (io), 8 PC7/SYNC/OC0DHS/OC0DH/SCK/EXTCLKC7/clkPER/EVOUT (io), 11 PD0/SYNC/D- (io), 12 PD1/SYNC/D+ (io), 13 ~{RESET}/PDI_CLK (in), 14 PDI_DATA (io), 53 PR0/SYNC/XTAL2/TOSC2 (io), 54 PR1/SYNC/XTAL1/TOSC1/EXTCLK (io), 57 PB0/SYNC/ADC8/ADC0/AC0/AREF (io), 58 PB1/SYNC/ADC9/ADC1/AC1 (io), 59 PB2/SYNC/ASYNC/ADC10/ADC2/AC2 (io), 60 PB3/SYNC/ADC11/ADC3/AC3 (io), 61 PB4/SYNC/ADC12/ADC4/AC4/TMS (io), 62 PB5/SYNC/ADC13/ADC5/AC5/TDI (io), 63 PB6/SYNC/ADC14/ADC6/AC6/AC1OUT/TCK (io), 64 PB7/SYNC/ADC15/ADC7/AC7/AC0OUT/TDO (io)
part B pins: 17 PG0/SEG24/SYNC (io), 18 PG1/SEG23/SYNC (io), 19 PG2/SEG22/SYNC/ASYNC (io), 20 PG3/SEG21/SYNC (io), 21 PG4/SEG20/SYNC (io), 22 PG5/SEG19/SYNC (io), 23 PG6/SEG18/SYNC (io), 24 PG7/SEG17/SYNC (io), 25 PM0/SEG16/SYNC (io), 26 PM1/SEG15/SYNC (io), 27 PM2/SEG14/SYNC/ASYNC (io), 28 PM3/SEG13/SYNC (io), 29 PM4/SEG12/SYNC (io), 30 PM5/SEG11/SYNC (io), 31 PM6/SEG10/SYNC (io), 32 PM7/SEG9/SYNC (io), 33 SEG8 (out), 34 SEG7 (out), 35 SEG6 (out), 36 SEG5 (out), 37 SEG4 (out), 38 SEG3 (out), 39 SEG2 (out), 40 SEG1/BLINK (out), 41 SEG0/BLINK (out), 44 BIAS1 (out), 45 BIAS2 (out), 46 VLCD (out), 47 CAPL, 48 CAPH, 49 COM0 (out), 50 COM1 (out), 51 COM2 (out), 52 COM3 (out)
part C pins: 9 GND (power), 10 VCC (power), 15 GND (power), 16 VCC (power), 42 GND (power), 43 VCC (power), 55 AGND (power), 56 AVDD (power), 65 DAP (power)

## ATxmega128D3-AU
designator U?
8/16-bit AVR XMEGA D3 Microcontroller, 1.6-3.6V, 32MHz, 128KB + 8KB Flash, 2KB EEPROM, 8KB SRAM, 64-pin TQFP, Industrial Grade (-40°C to 85°C), Pb-Free; DatasheetVersion: revI, Dec-2010; PackageVersion: revC, Oct-2010; PackageReference: 64A; PackageDescription: 64-Pin Plastic Thin Profile Quad Flat Pack, 14 x 14 x 1.0 mm Body, 0.8 mm Pitch (TQFP); Code_JEDEC: MS-026-AEB; ComponentLink1Description: Manufacturer URL; ComponentLink1URL: http://www.atmel.com/; ComponentLink2Description: ATxmega256D3/192D3/128D3/64D3 Datasheet; ComponentLink2URL: http://www.atmel.com/dyn/resources/prod_documents/doc8134.pdf
footprint 64A_N (Thin QFP, 64-Leads, Body 14x14mm, Pitch 0.8mm, IPC Medium Density)
footprint 64A_L (Thin QFP, 64-Leads, Body 14x14mm, Pitch 0.8mm, IPC High Density)
footprint 64A_M (Thin QFP, 64-Leads, Body 14x14mm, Pitch 0.8mm, IPC Low Density)
part A pins: 1 PA3/SYNC/ADC3/AC3 (io), 2 PA4/SYNC/ADC4/AC4 (io), 3 PA5/SYNC/ADC5/AC5 (io), 4 PA6/SYNC/ADC6/AC6 (io), 5 PA7/SYNC/ADC7/AC7/AC0 OUT (io), 6 PB0/SYNC/ADC8/AREFB (io), 7 PB1/SYNC/ADC9 (io), 8 PB2/SYNC/ASYNC/ADC10 (io), 9 PB3/SYNC/ADC11 (io), 10 PB4/SYNC/ADC12 (io), 11 PB5/SYNC/ADC13 (io), 12 PB6/SYNC/ADC14 (io), 13 PB7/SYNC/ADC15 (io), 16 PC0/SYNC/OC0A/OC0ALS/SDA (io), 17 PC1/SYNC/OC0B/OC0AHS/XCK0/SCL (io), 18 PC2/SYNC/ASYNC/OC0C/OC0BLS/RXD0 (io), 19 PC3/SYNC/OC0D/OC0BHS/TXD0 (io), 20 PC4/SYNC/OC0CLS/OC1A/~{SS} (io), 21 PC5/SYNC/OC0CHS/OC1B/MOSI (io), 22 PC6/SYNC/OC0DLS/MISO (io), 23 PC7/SYNC/OC0DHS/SCK/CLKOUT/EVOUT (io), 26 PD0/SYNC/OC0A (io), 27 PD1/SYNC/OC0B/XCK0 (io), 28 PD2/SYNC/ASYNC/OC0C/RXD0 (io), 29 PD3/SYNC/OC0D/TXD0 (io), 30 PD4/SYNC/~{SS} (io), 31 PD5/SYNC/MOSI (io), 32 PD6/SYNC/MISO (io), 33 PD7/SYNC/SCK/CLKOUT/EVOUT (io), 36 PE0/SYNC/OC0A/SDA (io), 37 PE1/SYNC/OC0B/XCK0/SCL (io), 38 PE2/SYNC/ASYNC/OC0C/RXD0 (io), 39 PE3/SYNC/OC0D/TXD0 (io), 40 PE4/SYNC (io), 41 PE5/SYNC (io), 42 PE6/SYNC/TOSC1 (io), 43 PE7/SYNC/CLKOUT/EVOUT/TOSC1 (io), 46 PF0/SYNC/OC0A (io), 47 PF1/SYNC/OC0B (io), 48 PF2/SYNC/ASYNC/OC0C (io), 49 PF3/SYNC/OC0D (io), 50 PF4/SYNC (io), 51 PF5/SYNC (io), 54 PF6/SYNC (io), 55 PF7/SYNC (io), 56 PDI/PDI_DATA (io), 57 ~{RESET}/PDI_CLOCK (in), 58 PRO/SYNC/XTAL2 (io), 59 PR1/SYNC/XTAL1 (io), 62 PA0/SYNC/ADC0/AC0/AREFA (io), 63 PA1/SYNC/ADC1/AC1 (io), 64 PA2/SYNC/ASYNC/ADC2/AC2 (io)
part B pins: 14 GND (power), 15 VCC (power), 24 GND (power), 25 VCC (power), 34 GND (power), 35 VCC (power), 44 GND (power), 45 VCC (power), 52 GND (power), 53 VCC (power), 60 GND (power), 61 AVCC (power)

## ATxmega128D3-MH
designator U?
8/16-bit AVR XMEGA D3 Microcontroller, 1.6-3.6V, 32MHz, 128KB + 8KB Flash, 2KB EEPROM, 8KB SRAM, 64-pin MLF, Industrial Grade (-40°C to 85°C), Pb-Free; DatasheetVersion: revI, Dec-2010; PackageVersion: revE, Oct-2010; PackageReference: 64M2; PackageDescription: 64-Pin Micro Lead Frame Package (MLF), 9 x 9 x 1.0 mm Body, 0.5 mm Pitch, 7.65 mm Exposed Pad; Code_JEDEC: MO-220VMMD; ComponentLink1Description: Manufacturer URL; ComponentLink1URL: http://www.atmel.com/; ComponentLink2Description: ATxmega256D3/192D3/128D3/64D3 Datasheet; ComponentLink2URL: http://www.atmel.com/dyn/resources/prod_documents/doc8134.pdf
footprint 64M2_N (QFN, 64-Leads, Body 9x9mm, Pitch 0.5mm, Thermal Pad 7.8x7.8mm, IPC Medium Density)
footprint 64M2_L (QFN, 64-Leads, Body 9x9mm, Pitch 0.5mm, Thermal Pad 7.8x7.8mm, IPC High Density)
footprint 64M2_M (QFN, 64-Leads, Body 9x9mm, Pitch 0.5mm, Thermal Pad 7.8x7.8mm, IPC Low Density)
part A pins: 1 PA3/SYNC/ADC3/AC3 (io), 2 PA4/SYNC/ADC4/AC4 (io), 3 PA5/SYNC/ADC5/AC5 (io), 4 PA6/SYNC/ADC6/AC6 (io), 5 PA7/SYNC/ADC7/AC7/AC0 OUT (io), 6 PB0/SYNC/ADC8/AREFB (io), 7 PB1/SYNC/ADC9 (io), 8 PB2/SYNC/ASYNC/ADC10 (io), 9 PB3/SYNC/ADC11 (io), 10 PB4/SYNC/ADC12 (io), 11 PB5/SYNC/ADC13 (io), 12 PB6/SYNC/ADC14 (io), 13 PB7/SYNC/ADC15 (io), 16 PC0/SYNC/OC0A/OC0ALS/SDA (io), 17 PC1/SYNC/OC0B/OC0AHS/XCK0/SCL (io), 18 PC2/SYNC/ASYNC/OC0C/OC0BLS/RXD0 (io), 19 PC3/SYNC/OC0D/OC0BHS/TXD0 (io), 20 PC4/SYNC/OC0CLS/OC1A/~{SS} (io), 21 PC5/SYNC/OC0CHS/OC1B/MOSI (io), 22 PC6/SYNC/OC0DLS/MISO (io), 23 PC7/SYNC/OC0DHS/SCK/CLKOUT/EVOUT (io), 26 PD0/SYNC/OC0A (io), 27 PD1/SYNC/OC0B/XCK0 (io), 28 PD2/SYNC/ASYNC/OC0C/RXD0 (io), 29 PD3/SYNC/OC0D/TXD0 (io), 30 PD4/SYNC/~{SS} (io), 31 PD5/SYNC/MOSI (io), 32 PD6/SYNC/MISO (io), 33 PD7/SYNC/SCK/CLKOUT/EVOUT (io), 36 PE0/SYNC/OC0A/SDA (io), 37 PE1/SYNC/OC0B/XCK0/SCL (io), 38 PE2/SYNC/ASYNC/OC0C/RXD0 (io), 39 PE3/SYNC/OC0D/TXD0 (io), 40 PE4/SYNC (io), 41 PE5/SYNC (io), 42 PE6/SYNC/TOSC1 (io), 43 PE7/SYNC/CLKOUT/EVOUT/TOSC1 (io), 46 PF0/SYNC/OC0A (io), 47 PF1/SYNC/OC0B (io), 48 PF2/SYNC/ASYNC/OC0C (io), 49 PF3/SYNC/OC0D (io), 50 PF4/SYNC (io), 51 PF5/SYNC (io), 54 PF6/SYNC (io), 55 PF7/SYNC (io), 56 PDI/PDI_DATA (io), 57 ~{RESET}/PDI_CLOCK (in), 58 PRO/SYNC/XTAL2 (io), 59 PR1/SYNC/XTAL1 (io), 62 PA0/SYNC/ADC0/AC0/AREFA (io), 63 PA1/SYNC/ADC1/AC1 (io), 64 PA2/SYNC/ASYNC/ADC2/AC2 (io)
part B pins: 14 GND (power), 15 VCC (power), 24 GND (power), 25 VCC (power), 34 GND (power), 35 VCC (power), 44 GND (power), 45 VCC (power), 52 GND (power), 53 VCC (power), 60 GND (power), 61 AVCC (power), 65 DAP (power)

## ATxmega128D4- AU
designator U?
8/16-bit AVR XMEGA D4 Microcontroller, 1.6-3.6V, 32MHz, 128KB + 8KB Flash, 2KB EEPROM, 8KB SRAM, 44-pin TQFP, Industrial Grade (-40°C to 85°C), Pb-Free; DatasheetVersion: revJ, Dec-2010; PackageVersion: revC, Oct-2010; PackageReference: 44A; PackageDescription: 44-Pin Plastic Thin Profile Quad Flat Pack, 10 x 10 x 1.0 mm Body, 0.8 mm Pitch (TQFP); Code_JEDEC: MS-026-ACB; ComponentLink1Description: Manufacturer URL; ComponentLink1URL: http://www.atmel.com/; ComponentLink2Description: ATxmega128D4/64D4/32D4/16D4 Datasheet; ComponentLink2URL: http://www.atmel.com/dyn/resources/prod_documents/doc8135.pdf
footprint 44A_N (Thin QFP, 44-Leads, Body 10x10mm, Pitch 0.8mm, IPC Medium Density)
footprint 44A_L (Thin QFP, 44-Leads, Body 10x10mm, Pitch 0.8mm, IPC High Density)
footprint 44A_M (Thin QFP, 44-Leads, Body 10x10mm, Pitch 0.8mm, IPC Low Density)
pins: 1 PA5/SYNC/ADC5/AC5 (io), 2 PA6/SYNC/ADC6/AC6 (io), 3 PA7/SYNC/ADC7/AC7/AC0 OUT (io), 4 PB0/SYNC/ADC8/AREF (io), 5 PB1/SYNC/ADC9 (io), 6 PB2/SYNC/ASYNC/ADC10 (io), 7 PB3/SYNC/ADC11 (io), 8 GND (power), 9 VCC (power), 10 PC0/SYNC/OC0A/OC0ALS/SDA (io), 11 PC1/SYNC/OC0B/OC0AHS/XCK0/SCL (io), 12 PC2/SYNC/ASYNC/OC0C/OC0BLS/RXD0 (io), 13 PC3/SYNC/OC0D/OC0BHS/TXD0 (io), 14 PC4/SYNC/OC0CLS/OC1A/~{SS} (io), 15 PC5/SYNC/OC0CHS/OC1B/MOSI (io), 16 PC6/SYNC/OC0DLS/MISO (io), 17 PC7/SYNC/OC0DHS/SCK/CLKOUT/EVOUT (io), 18 GND (power), 19 VCC (power), 20 PD0/SYNC/OC0A (io), 21 PD1/SYNC/OC0B/XCK0 (io), 22 PD2/SYNC/ASYNC/OC0C/RXD0 (io), 23 PD3/SYNC/OC0D/TXD0 (io), 24 PD4/SYNC/~{SS} (io), 25 PD5/SYNC/MOSI (io), 26 PD6/SYNC/MISO (io), 27 PD7/SYNC/SCK/CLKOUT/EVOUT (io), 28 PE0/SYNC/OC0A/SDA (io), 29 PE1/SYNC/OC0B/SCL (io), 30 GND (power), 31 VCC (power), 32 PE2/SYNC/ASYNC/OC0C (io), 33 PE3/SYNC/OC0D (io), 34 PDI/PDI_DATA (io), 35 ~{RESET}/PDI_CLK (in), 36 PR0/XTAL2/TOSC2 (io), 37 PR1/XTAL1/TOSC1 (io), 38 GND (power), 39 AVCC (power), 40 PA0/SYNC/ADC0/AC0/AREF (io), 41 PA1/SYNC/ADC1/AC1 (io), 42 PA2/SYNC/ASYNC/ADC2/AC2 (io), 43 PA3/SYNC/ADC3/AC3 (io), 44 PA4/SYNC/ADC4/AC4 (io)

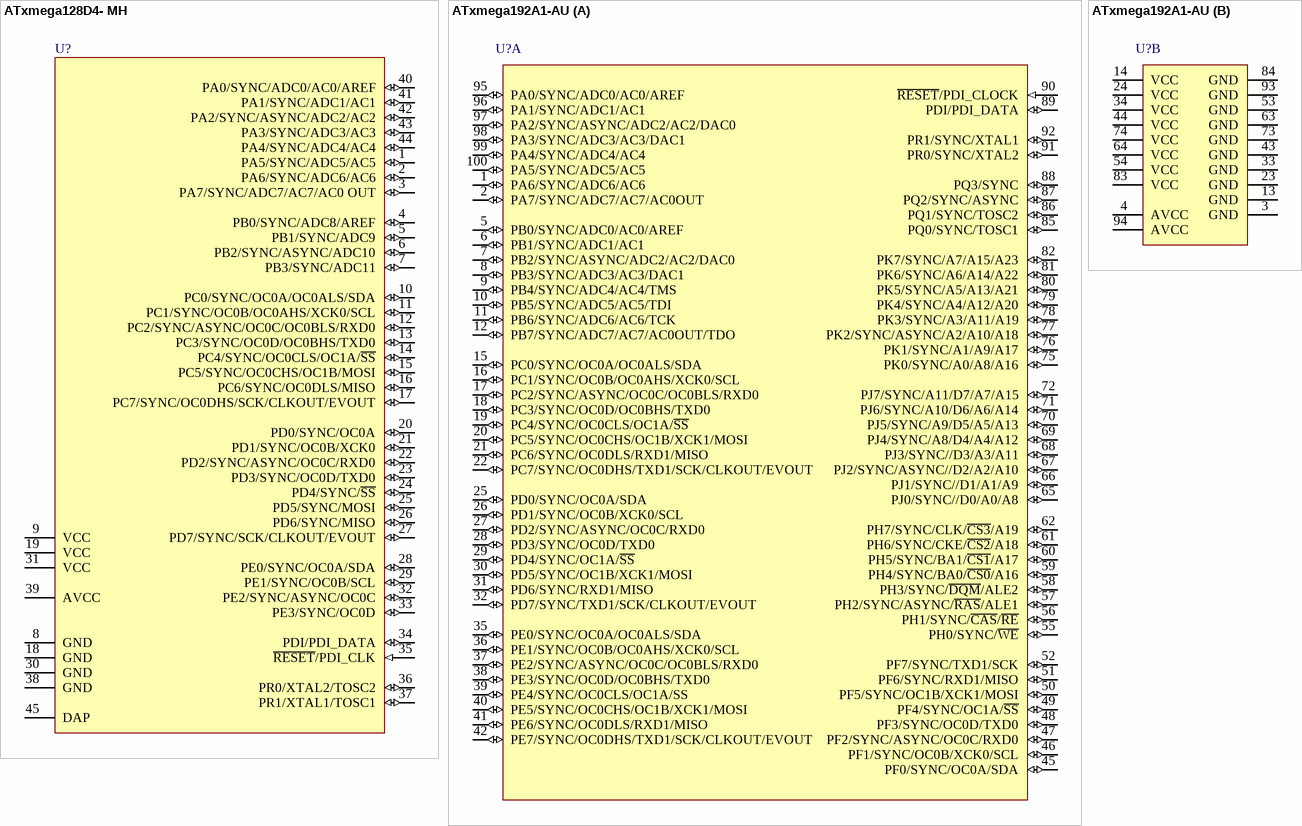
[diagram p14: symbols ATxmega128D4- MH to ATxmega192A1-AU]

## ATxmega128D4- MH
designator U?
8/16-bit AVR XMEGA D4 Microcontroller, 1.6-3.6V, 32MHz, 128KB + 8KB Flash, 2KB EEPROM, 8KB SRAM, 44-pin VQFN, Industrial Grade (-40°C to 85°C), Pb-Free; DatasheetVersion: revJ, Dec-2010; PackageVersion: revH, Sep-2008; PackageReference: 44M1; PackageDescription: 44-Pin Plastic Very Thin Quad Flat No-Lead Package, 7 x 7 x 1.0 mm Body, 0.5 mm Pitch (VQFN), 5.2 mm Exposed Pad; Code_JEDEC: MO-220-VKKD-1; ComponentLink1Description: Manufacturer URL; ComponentLink1URL: http://www.atmel.com/; ComponentLink2Description: ATxmega128D4/64D4/32D4/16D4 Datasheet; ComponentLink2URL: http://www.atmel.com/dyn/resources/prod_documents/doc8135.pdf
footprint 44M1_N (QFN, 44-Leads, Body 7x7mm, Pitch 0.5mm, Thermal Pad 5.3x5.3mm, IPC Medium Density)
footprint 44M1_L (QFN, 44-Leads, Body 7x7mm, Pitch 0.5mm, Thermal Pad 5.3x5.3mm, IPC High Density)
footprint 44M1_M (QFN, 44-Leads, Body 7x7mm, Pitch 0.5mm, Thermal Pad 5.3x5.3mm, IPC Low Density)
pins: 1 PA5/SYNC/ADC5/AC5 (io), 2 PA6/SYNC/ADC6/AC6 (io), 3 PA7/SYNC/ADC7/AC7/AC0 OUT (io), 4 PB0/SYNC/ADC8/AREF (io), 5 PB1/SYNC/ADC9 (io), 6 PB2/SYNC/ASYNC/ADC10 (io), 7 PB3/SYNC/ADC11 (io), 8 GND (power), 9 VCC (power), 10 PC0/SYNC/OC0A/OC0ALS/SDA (io), 11 PC1/SYNC/OC0B/OC0AHS/XCK0/SCL (io), 12 PC2/SYNC/ASYNC/OC0C/OC0BLS/RXD0 (io), 13 PC3/SYNC/OC0D/OC0BHS/TXD0 (io), 14 PC4/SYNC/OC0CLS/OC1A/~{SS} (io), 15 PC5/SYNC/OC0CHS/OC1B/MOSI (io), 16 PC6/SYNC/OC0DLS/MISO (io), 17 PC7/SYNC/OC0DHS/SCK/CLKOUT/EVOUT (io), 18 GND (power), 19 VCC (power), 20 PD0/SYNC/OC0A (io), 21 PD1/SYNC/OC0B/XCK0 (io), 22 PD2/SYNC/ASYNC/OC0C/RXD0 (io), 23 PD3/SYNC/OC0D/TXD0 (io), 24 PD4/SYNC/~{SS} (io), 25 PD5/SYNC/MOSI (io), 26 PD6/SYNC/MISO (io), 27 PD7/SYNC/SCK/CLKOUT/EVOUT (io), 28 PE0/SYNC/OC0A/SDA (io), 29 PE1/SYNC/OC0B/SCL (io), 30 GND (power), 31 VCC (power), 32 PE2/SYNC/ASYNC/OC0C (io), 33 PE3/SYNC/OC0D (io), 34 PDI/PDI_DATA (io), 35 ~{RESET}/PDI_CLK (in), 36 PR0/XTAL2/TOSC2 (io), 37 PR1/XTAL1/TOSC1 (io), 38 GND (power), 39 AVCC (power), 40 PA0/SYNC/ADC0/AC0/AREF (io), 41 PA1/SYNC/ADC1/AC1 (io), 42 PA2/SYNC/ASYNC/ADC2/AC2 (io), 43 PA3/SYNC/ADC3/AC3 (io), 44 PA4/SYNC/ADC4/AC4 (io), 45 DAP (power)

## ATxmega192A1-AU
designator U?
8/16-bit AVR XMEGA A1 Microcontroller, 1.6-3.6V, 32MHz, 192KB + 8KB Flash, 2KB EEPROM, 16KB SRAM, 100-pin TQFP, Industrial Grade (-40°C to 85°C), Pb-Free; DatasheetVersion: revM, Sep-2010; PackageVersion: revD, Oct-2010; PackageReference: 100A; PackageDescription: 100-Pin Thin Profile Plastic Quad Flat Pack (TQFP), 14 x 14 x 1.0 mm Body, 0.5 mm Pitch; Code_JEDEC: MS-026-AED; ComponentLink1Description: Manufacturer URL; ComponentLink1URL: http://www.atmel.com/; ComponentLink2Description: ATxmega64A1/128A1/192A1/256A1/384A1 Datasheet; ComponentLink2URL: http://www.atmel.com/dyn/resources/prod_documents/doc8067.pdf
footprint 100A_N (Thin QFP, 100-Leads, Body 14x14mm, Pitch 0.5mm, IPC Medium Density)
footprint 100A_L (Thin QFP, 100-Leads, Body 14x14mm, Pitch 0.5mm, IPC High Density)
footprint 100A_M (Thin QFP, 100-Leads, Body 14x14mm, Pitch 0.5mm, IPC Low Density)
part A pins: 1 PA6/SYNC/ADC6/AC6 (io), 2 PA7/SYNC/ADC7/AC7/AC0OUT (io), 5 PB0/SYNC/ADC0/AC0/AREF (io), 6 PB1/SYNC/ADC1/AC1 (io), 7 PB2/SYNC/ASYNC/ADC2/AC2/DAC0 (io), 8 PB3/SYNC/ADC3/AC3/DAC1 (io), 9 PB4/SYNC/ADC4/AC4/TMS (io), 10 PB5/SYNC/ADC5/AC5/TDI (io), 11 PB6/SYNC/ADC6/AC6/TCK (io), 12 PB7/SYNC/ADC7/AC7/AC0OUT/TDO (io), 15 PC0/SYNC/OC0A/OC0ALS/SDA (io), 16 PC1/SYNC/OC0B/OC0AHS/XCK0/SCL (io), 17 PC2/SYNC/ASYNC/OC0C/OC0BLS/RXD0 (io), 18 PC3/SYNC/OC0D/OC0BHS/TXD0 (io), 19 PC4/SYNC/OC0CLS/OC1A/~{SS} (io), 20 PC5/SYNC/OC0CHS/OC1B/XCK1/MOSI (io), 21 PC6/SYNC/OC0DLS/RXD1/MISO (io), 22 PC7/SYNC/OC0DHS/TXD1/SCK/CLKOUT/EVOUT (io), 25 PD0/SYNC/OC0A/SDA (io), 26 PD1/SYNC/OC0B/XCK0/SCL (io), 27 PD2/SYNC/ASYNC/OC0C/RXD0 (io), 28 PD3/SYNC/OC0D/TXD0 (io), 29 PD4/SYNC/OC1A/~{SS} (io), 30 PD5/SYNC/OC1B/XCK1/MOSI (io), 31 PD6/SYNC/RXD1/MISO (io), 32 PD7/SYNC/TXD1/SCK/CLKOUT/EVOUT (io), 35 PE0/SYNC/OC0A/OC0ALS/SDA (io), 36 PE1/SYNC/OC0B/OC0AHS/XCK0/SCL (io), 37 PE2/SYNC/ASYNC/OC0C/OC0BLS/RXD0 (io), 38 PE3/SYNC/OC0D/OC0BHS/TXD0 (io), 39 PE4/SYNC/OC0CLS/OC1A/SS (io), 40 PE5/SYNC/OC0CHS/OC1B/XCK1/MOSI (io), 41 PE6/SYNC/OC0DLS/RXD1/MISO (io), 42 PE7/SYNC/OC0DHS/TXD1/SCK/CLKOUT/EVOUT (io), 45 PF0/SYNC/OC0A/SDA (io), 46 PF1/SYNC/OC0B/XCK0/SCL (io), 47 PF2/SYNC/ASYNC/OC0C/RXD0 (io), 48 PF3/SYNC/OC0D/TXD0 (io), 49 PF4/SYNC/OC1A/~{SS} (io), 50 PF5/SYNC/OC1B/XCK1/MOSI (io), 51 PF6/SYNC/RXD1/MISO (io), 52 PF7/SYNC/TXD1/SCK (io), 55 PH0/SYNC/~{WE} (io), 56 PH1/SYNC/~{CAS}/~{RE} (io), 57 PH2/SYNC/ASYNC/~{RAS}/ALE1 (io), 58 PH3/SYNC/~{DQM}/ALE2 (io), 59 PH4/SYNC/BA0/~{CS0}/A16 (io), 60 PH5/SYNC/BA1/~{CS1}/A17 (io), 61 PH6/SYNC/CKE/~{CS2}/A18 (io), 62 PH7/SYNC/CLK/~{CS3}/A19 (io), 65 PJ0/SYNC//D0/A0/A8 (io), 66 PJ1/SYNC//D1/A1/A9 (io), 67 PJ2/SYNC/ASYNC//D2/A2/A10 (io), 68 PJ3/SYNC//D3/A3/A11 (io), 69 PJ4/SYNC/A8/D4/A4/A12 (io), 70 PJ5/SYNC/A9/D5/A5/A13 (io), 71 PJ6/SYNC/A10/D6/A6/A14 (io), 72 PJ7/SYNC/A11/D7/A7/A15 (io), 75 PK0/SYNC/A0/A8/A16 (io), 76 PK1/SYNC/A1/A9/A17 (io), 77 PK2/SYNC/ASYNC/A2/A10/A18 (io), 78 PK3/SYNC/A3/A11/A19 (io), 79 PK4/SYNC/A4/A12/A20 (io), 80 PK5/SYNC/A5/A13/A21 (io), 81 PK6/SYNC/A6/A14/A22 (io), 82 PK7/SYNC/A7/A15/A23 (io), 85 PQ0/SYNC/TOSC1 (io), 86 PQ1/SYNC/TOSC2 (io), 87 PQ2/SYNC/ASYNC (io), 88 PQ3/SYNC (io), 89 PDI/PDI_DATA (io), 90 ~{RESET}/PDI_CLOCK (in), 91 PR0/SYNC/XTAL2 (io), 92 PR1/SYNC/XTAL1 (io), 95 PA0/SYNC/ADC0/AC0/AREF (io), 96 PA1/SYNC/ADC1/AC1 (io), 97 PA2/SYNC/ASYNC/ADC2/AC2/DAC0 (io), 98 PA3/SYNC/ADC3/AC3/DAC1 (io), 99 PA4/SYNC/ADC4/AC4 (io), 100 PA5/SYNC/ADC5/AC5 (io)
part B pins: 3 GND (power), 4 AVCC (power), 13 GND (power), 14 VCC (power), 23 GND (power), 24 VCC (power), 33 GND (power), 34 VCC (power), 43 GND (power), 44 VCC (power), 53 GND (power), 54 VCC (power), 63 GND (power), 64 VCC (power), 73 GND (power), 74 VCC (power), 83 VCC (power), 84 GND (power), 93 GND (power), 94 AVCC (power)

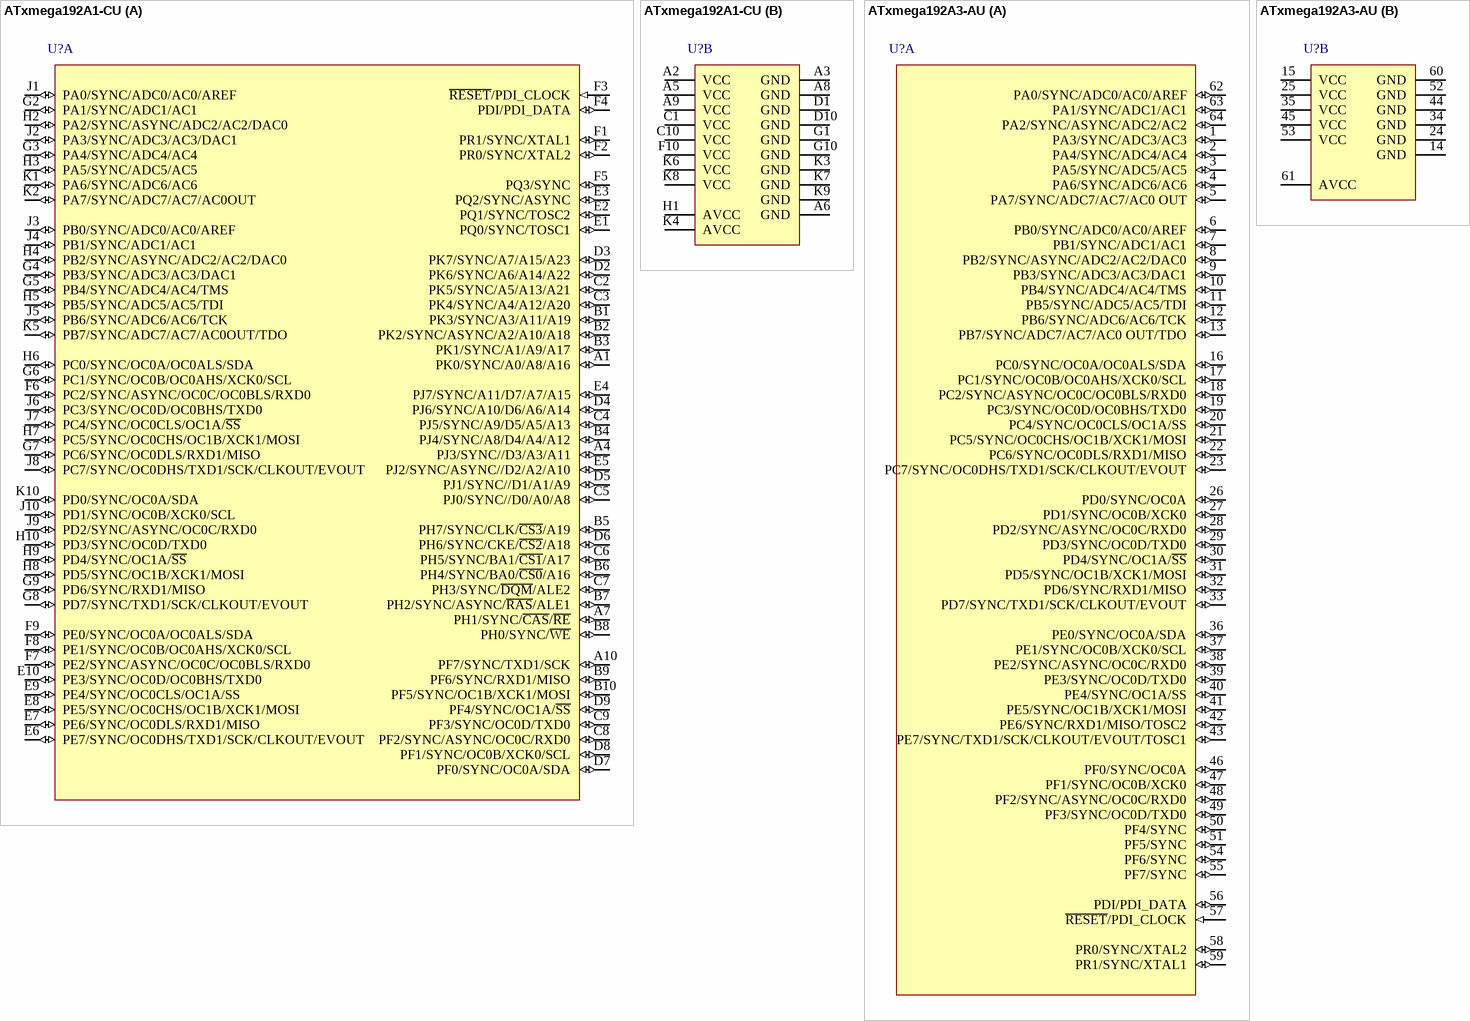
[diagram p15: symbols ATxmega192A1-CU to ATxmega192A3-AU]